# Altium integrated library Atmel Microcontroller 8-Bit megaAVR.IntLib: 324 symbols (part 8 of 10)
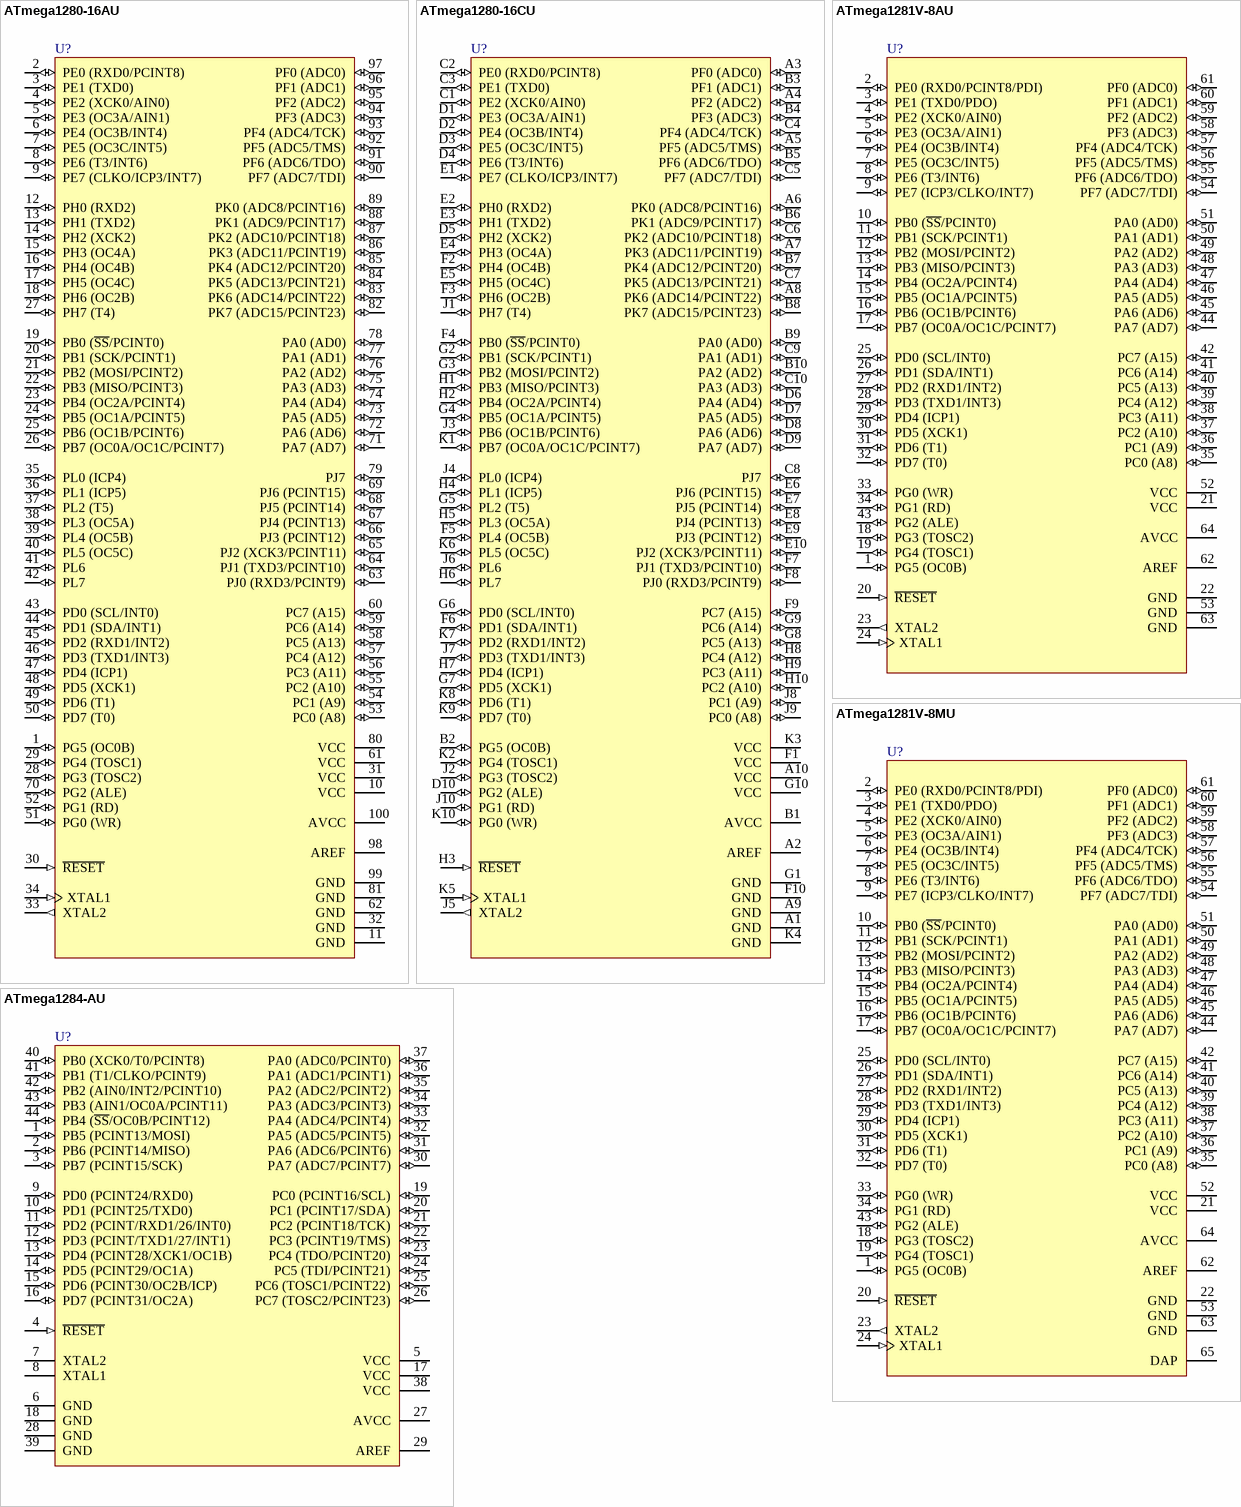
[diagram p49: symbols ATmega1280-16AU to ATmega1284-AU]

## ATmega1281V-8AU
designator U?
8-bit AVR Microcontroller, 1.8-5.5V, 128KB Flash, 4KB EEPROM, 8KB SRAM, 54 GPIO pins, 64-pin TQFP, Industrial Grade (-40°C to 85°C), Pb-Free
footprint 64A_N (Thin QFP, 64-Leads, Body 14x14mm, Pitch 0.8mm, IPC Medium Density)
footprint 64A_L (Thin QFP, 64-Leads, Body 14x14mm, Pitch 0.8mm, IPC High Density)
footprint 64A_M (Thin QFP, 64-Leads, Body 14x14mm, Pitch 0.8mm, IPC Low Density)
pins: 1 PG5 (OC0B) (io), 2 PE0 (RXD0/PCINT8/PDI) (io), 3 PE1 (TXD0/PDO) (io), 4 PE2 (XCK0/AIN0) (io), 5 PE3 (OC3A/AIN1) (io), 6 PE4 (OC3B/INT4) (io), 7 PE5 (OC3C/INT5) (io), 8 PE6 (T3/INT6) (io), 9 PE7 (ICP3/CLKO/INT7) (io), 10 PB0 (~{SS}/PCINT0) (io), 11 PB1 (SCK/PCINT1) (io), 12 PB2 (MOSI/PCINT2) (io), 13 PB3 (MISO/PCINT3) (io), 14 PB4 (OC2A/PCINT4) (io), 15 PB5 (OC1A/PCINT5) (io), 16 PB6 (OC1B/PCINT6) (io), 17 PB7 (OC0A/OC1C/PCINT7) (io), 18 PG3 (TOSC2) (io), 19 PG4 (TOSC1) (io), 20 ~{RESET} (in), 21 VCC (power), 22 GND (power), 23 XTAL2 (out), 24 XTAL1 (in), 25 PD0 (SCL/INT0) (io), 26 PD1 (SDA/INT1) (io), 27 PD2 (RXD1/INT2) (io), 28 PD3 (TXD1/INT3) (io), 29 PD4 (ICP1) (io), 30 PD5 (XCK1) (io), 31 PD6 (T1) (io), 32 PD7 (T0) (io), 33 PG0 (WR) (io), 34 PG1 (RD) (io), 35 PC0 (A8) (io), 36 PC1 (A9) (io), 37 PC2 (A10) (io), 38 PC3 (A11) (io), 39 PC4 (A12) (io), 40 PC5 (A13) (io), 41 PC6 (A14) (io), 42 PC7 (A15) (io), 43 PG2 (ALE) (io), 44 PA7 (AD7) (io), 45 PA6 (AD6) (io), 46 PA5 (AD5) (io), 47 PA4 (AD4) (io), 48 PA3 (AD3) (io), 49 PA2 (AD2) (io), 50 PA1 (AD1) (io), 51 PA0 (AD0) (io), 52 VCC (power), 53 GND (power), 54 PF7 (ADC7/TDI) (io), 55 PF6 (ADC6/TDO) (io), 56 PF5 (ADC5/TMS) (io), 57 PF4 (ADC4/TCK) (io), 58 PF3 (ADC3) (io), 59 PF2 (ADC2) (io), 60 PF1 (ADC1) (io), 61 PF0 (ADC0) (io), 62 AREF (power), 63 GND (power), 64 AVCC (power)

## ATmega1281V-8MU
designator U?
8-bit AVR Microcontroller, 1.8-5.5V, 128KB Flash, 4KB EEPROM, 8KB SRAM, 54 GPIO pins, 64-pin MLF, Industrial Grade (-40°C to 85°C), Pb-Free
footprint 64M2_N (QFN, 64-Leads, Body 9x9mm, Pitch 0.5mm, IPC Medium Density)
footprint 64M2_L (QFN, 64-Leads, Body 9x9mm, Pitch 0.5mm, IPC High Density)
footprint 64M2_M (QFN, 64-Leads, Body 9x9mm, Pitch 0.5mm, IPC Low Density)
pins: 1 PG5 (OC0B) (io), 2 PE0 (RXD0/PCINT8/PDI) (io), 3 PE1 (TXD0/PDO) (io), 4 PE2 (XCK0/AIN0) (io), 5 PE3 (OC3A/AIN1) (io), 6 PE4 (OC3B/INT4) (io), 7 PE5 (OC3C/INT5) (io), 8 PE6 (T3/INT6) (io), 9 PE7 (ICP3/CLKO/INT7) (io), 10 PB0 (~{SS}/PCINT0) (io), 11 PB1 (SCK/PCINT1) (io), 12 PB2 (MOSI/PCINT2) (io), 13 PB3 (MISO/PCINT3) (io), 14 PB4 (OC2A/PCINT4) (io), 15 PB5 (OC1A/PCINT5) (io), 16 PB6 (OC1B/PCINT6) (io), 17 PB7 (OC0A/OC1C/PCINT7) (io), 18 PG3 (TOSC2) (io), 19 PG4 (TOSC1) (io), 20 ~{RESET} (in), 21 VCC (power), 22 GND (power), 23 XTAL2 (out), 24 XTAL1 (in), 25 PD0 (SCL/INT0) (io), 26 PD1 (SDA/INT1) (io), 27 PD2 (RXD1/INT2) (io), 28 PD3 (TXD1/INT3) (io), 29 PD4 (ICP1) (io), 30 PD5 (XCK1) (io), 31 PD6 (T1) (io), 32 PD7 (T0) (io), 33 PG0 (WR) (io), 34 PG1 (RD) (io), 35 PC0 (A8) (io), 36 PC1 (A9) (io), 37 PC2 (A10) (io), 38 PC3 (A11) (io), 39 PC4 (A12) (io), 40 PC5 (A13) (io), 41 PC6 (A14) (io), 42 PC7 (A15) (io), 43 PG2 (ALE) (io), 44 PA7 (AD7) (io), 45 PA6 (AD6) (io), 46 PA5 (AD5) (io), 47 PA4 (AD4) (io), 48 PA3 (AD3) (io), 49 PA2 (AD2) (io), 50 PA1 (AD1) (io), 51 PA0 (AD0) (io), 52 VCC (power), 53 GND (power), 54 PF7 (ADC7/TDI) (io), 55 PF6 (ADC6/TDO) (io), 56 PF5 (ADC5/TMS) (io), 57 PF4 (ADC4/TCK) (io), 58 PF3 (ADC3) (io), 59 PF2 (ADC2) (io), 60 PF1 (ADC1) (io), 61 PF0 (ADC0) (io), 62 AREF (power), 63 GND (power), 64 AVCC (power), 65 DAP (power)

## ATmega1284-AU
designator U?
8-bit AVR Microcontroller, 128KB Flash, 4KB EEPROM, 16KB SRAM, 44-pin TQFP, Industrial Grade (-40°C to 85°C)
footprint 44A_N (Thin QFP, 44-Leads, Body 10x10mm, Pitch 0.8mm, IPC Medium Density)
footprint 44A_L (Thin QFP, 44-Leads, Body 10x10mm, Pitch 0.8mm, IPC High Density)
footprint 44A_M (Thin QFP, 44-Leads, Body 10x10mm, Pitch 0.8mm, IPC Low Density)
pins: 1 PB5 (PCINT13/MOSI) (io), 2 PB6 (PCINT14/MISO) (io), 3 PB7 (PCINT15/SCK) (io), 4 ~{RESET} (in), 5 VCC (power), 6 GND (power), 7 XTAL2, 8 XTAL1, 9 PD0 (PCINT24/RXD0) (io), 10 PD1 (PCINT25/TXD0) (io), 11 PD2 (PCINT/RXD1/26/INT0) (io), 12 PD3 (PCINT/TXD1/27/INT1) (io), 13 PD4 (PCINT28/XCK1/OC1B) (io), 14 PD5 (PCINT29/OC1A) (io), 15 PD6 (PCINT30/OC2B/ICP) (io), 16 PD7 (PCINT31/OC2A) (io), 17 VCC (power), 18 GND (power), 19 PC0 (PCINT16/SCL) (io), 20 PC1 (PCINT17/SDA) (io), 21 PC2 (PCINT18/TCK) (io), 22 PC3 (PCINT19/TMS) (io), 23 PC4 (TDO/PCINT20) (io), 24 PC5 (TDI/PCINT21) (io), 25 PC6 (TOSC1/PCINT22) (io), 26 PC7 (TOSC2/PCINT23) (io), 27 AVCC (power), 28 GND (power), 29 AREF (power), 30 PA7 (ADC7/PCINT7) (io), 31 PA6 (ADC6/PCINT6) (io), 32 PA5 (ADC5/PCINT5) (io), 33 PA4 (ADC4/PCINT4) (io), 34 PA3 (ADC3/PCINT3) (io), 35 PA2 (ADC2/PCINT2) (io), 36 PA1 (ADC1/PCINT1) (io), 37 PA0 (ADC0/PCINT0) (io), 38 VCC (power), 39 GND (power), 40 PB0 (XCK0/T0/PCINT8) (io), 41 PB1 (T1/CLKO/PCINT9) (io), 42 PB2 (AIN0/INT2/PCINT10) (io), 43 PB3 (AIN1/OC0A/PCINT11) (io), 44 PB4 (~{SS}/OC0B/PCINT12) (io)

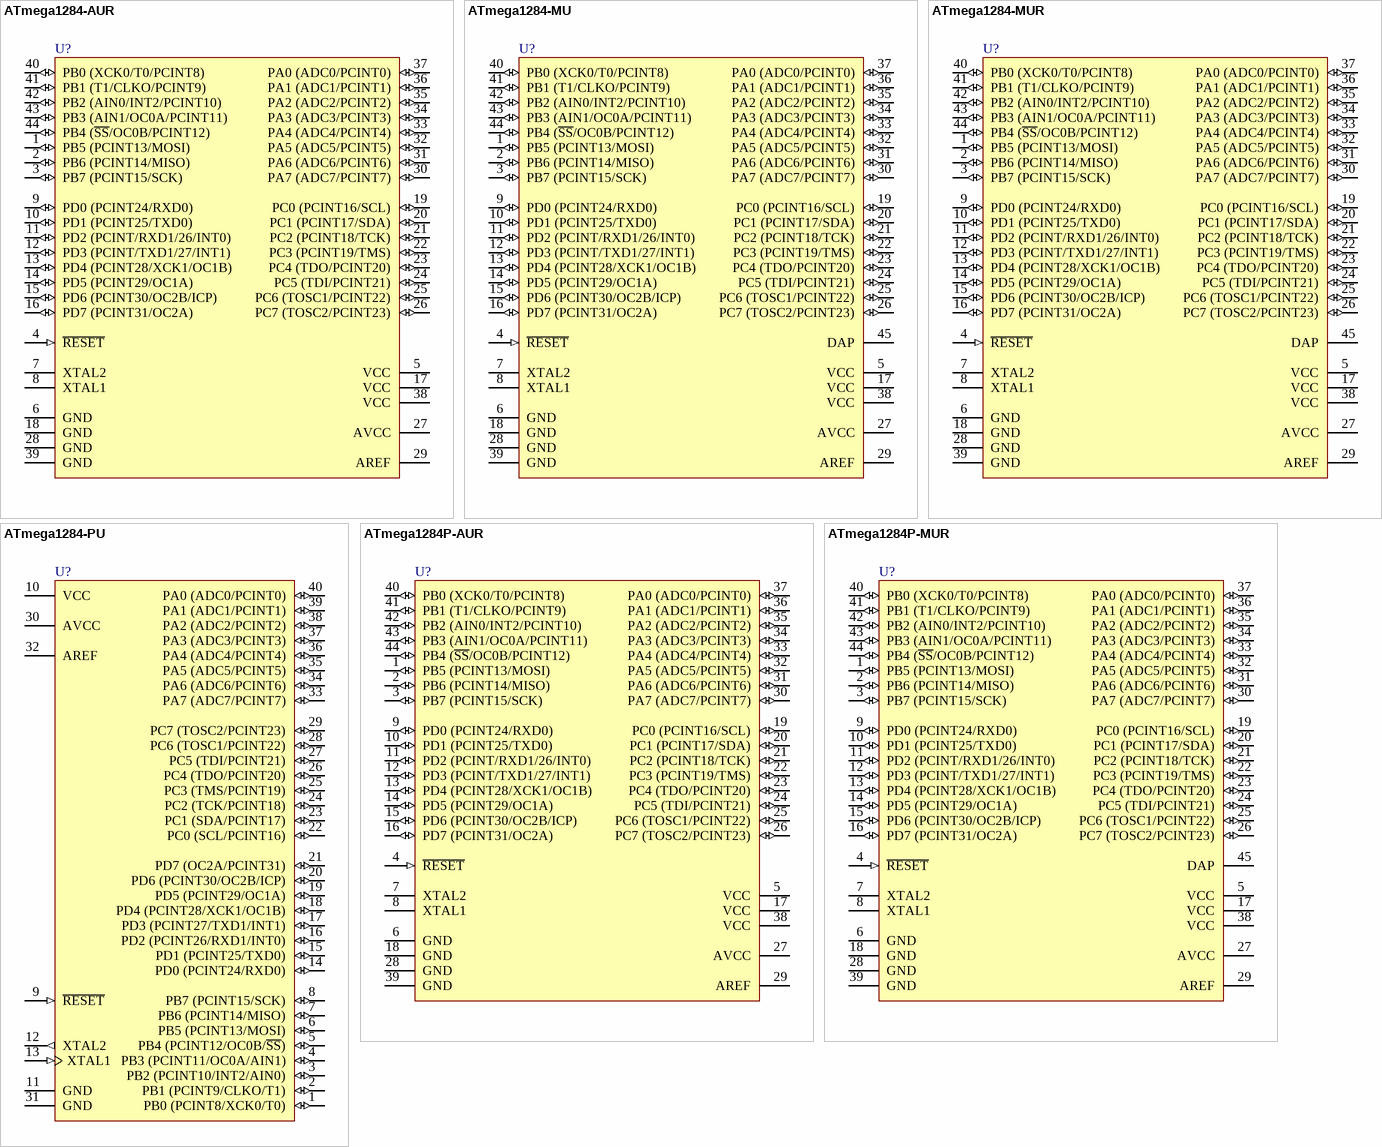
[diagram p30: symbols ATmega1284-AUR to ATmega1284P-MUR]

## ATmega1284-AUR
designator U?
8-bit AVR Microcontroller, 128KB Flash, 4KB EEPROM, 16KB SRAM, 44-pin TQFP, Industrial Grade (-40°C to 85°C), Reel
footprint 44A_N (Thin QFP, 44-Leads, Body 10x10mm, Pitch 0.8mm, IPC Medium Density)
footprint 44A_L (Thin QFP, 44-Leads, Body 10x10mm, Pitch 0.8mm, IPC High Density)
footprint 44A_M (Thin QFP, 44-Leads, Body 10x10mm, Pitch 0.8mm, IPC Low Density)
pins: 1 PB5 (PCINT13/MOSI) (io), 2 PB6 (PCINT14/MISO) (io), 3 PB7 (PCINT15/SCK) (io), 4 ~{RESET} (in), 5 VCC (power), 6 GND (power), 7 XTAL2, 8 XTAL1, 9 PD0 (PCINT24/RXD0) (io), 10 PD1 (PCINT25/TXD0) (io), 11 PD2 (PCINT/RXD1/26/INT0) (io), 12 PD3 (PCINT/TXD1/27/INT1) (io), 13 PD4 (PCINT28/XCK1/OC1B) (io), 14 PD5 (PCINT29/OC1A) (io), 15 PD6 (PCINT30/OC2B/ICP) (io), 16 PD7 (PCINT31/OC2A) (io), 17 VCC (power), 18 GND (power), 19 PC0 (PCINT16/SCL) (io), 20 PC1 (PCINT17/SDA) (io), 21 PC2 (PCINT18/TCK) (io), 22 PC3 (PCINT19/TMS) (io), 23 PC4 (TDO/PCINT20) (io), 24 PC5 (TDI/PCINT21) (io), 25 PC6 (TOSC1/PCINT22) (io), 26 PC7 (TOSC2/PCINT23) (io), 27 AVCC (power), 28 GND (power), 29 AREF (power), 30 PA7 (ADC7/PCINT7) (io), 31 PA6 (ADC6/PCINT6) (io), 32 PA5 (ADC5/PCINT5) (io), 33 PA4 (ADC4/PCINT4) (io), 34 PA3 (ADC3/PCINT3) (io), 35 PA2 (ADC2/PCINT2) (io), 36 PA1 (ADC1/PCINT1) (io), 37 PA0 (ADC0/PCINT0) (io), 38 VCC (power), 39 GND (power), 40 PB0 (XCK0/T0/PCINT8) (io), 41 PB1 (T1/CLKO/PCINT9) (io), 42 PB2 (AIN0/INT2/PCINT10) (io), 43 PB3 (AIN1/OC0A/PCINT11) (io), 44 PB4 (~{SS}/OC0B/PCINT12) (io)

## ATmega1284-MU
designator U?
8-bit AVR Microcontroller, 128KB Flash, 4KB EEPROM, 16KB SRAM, 44-pin VQFN, Industrial Grade (-40°C to 85°C)
footprint 44M1_N (QFN, 44-Leads, Body 7x7mm, Pitch 0.5mm, IPC Medium Density)
footprint 44M1_L (QFN, 44-Leads, Body 7x7mm, Pitch 0.5mm, IPC High Density)
footprint 44M1_M (QFN, 44-Leads, Body 7x7mm, Pitch 0.5mm, IPC Low Density)
pins: 1 PB5 (PCINT13/MOSI) (io), 2 PB6 (PCINT14/MISO) (io), 3 PB7 (PCINT15/SCK) (io), 4 ~{RESET} (in), 5 VCC (power), 6 GND (power), 7 XTAL2, 8 XTAL1, 9 PD0 (PCINT24/RXD0) (io), 10 PD1 (PCINT25/TXD0) (io), 11 PD2 (PCINT/RXD1/26/INT0) (io), 12 PD3 (PCINT/TXD1/27/INT1) (io), 13 PD4 (PCINT28/XCK1/OC1B) (io), 14 PD5 (PCINT29/OC1A) (io), 15 PD6 (PCINT30/OC2B/ICP) (io), 16 PD7 (PCINT31/OC2A) (io), 17 VCC (power), 18 GND (power), 19 PC0 (PCINT16/SCL) (io), 20 PC1 (PCINT17/SDA) (io), 21 PC2 (PCINT18/TCK) (io), 22 PC3 (PCINT19/TMS) (io), 23 PC4 (TDO/PCINT20) (io), 24 PC5 (TDI/PCINT21) (io), 25 PC6 (TOSC1/PCINT22) (io), 26 PC7 (TOSC2/PCINT23) (io), 27 AVCC (power), 28 GND (power), 29 AREF, 30 PA7 (ADC7/PCINT7) (io), 31 PA6 (ADC6/PCINT6) (io), 32 PA5 (ADC5/PCINT5) (io), 33 PA4 (ADC4/PCINT4) (io), 34 PA3 (ADC3/PCINT3) (io), 35 PA2 (ADC2/PCINT2) (io), 36 PA1 (ADC1/PCINT1) (io), 37 PA0 (ADC0/PCINT0) (io), 38 VCC (power), 39 GND (power), 40 PB0 (XCK0/T0/PCINT8) (io), 41 PB1 (T1/CLKO/PCINT9) (io), 42 PB2 (AIN0/INT2/PCINT10) (io), 43 PB3 (AIN1/OC0A/PCINT11) (io), 44 PB4 (~{SS}/OC0B/PCINT12) (io), 45 DAP (power)

## ATmega1284-MUR
designator U?
8-bit AVR Microcontroller, 128KB Flash, 4KB EEPROM, 16KB SRAM, 44-pin VQFN, Industrial Grade (-40°C to 85°C), Reel
footprint 44M1_N (QFN, 44-Leads, Body 7x7mm, Pitch 0.5mm, IPC Medium Density)
footprint 44M1_L (QFN, 44-Leads, Body 7x7mm, Pitch 0.5mm, IPC High Density)
footprint 44M1_M (QFN, 44-Leads, Body 7x7mm, Pitch 0.5mm, IPC Low Density)
pins: 1 PB5 (PCINT13/MOSI) (io), 2 PB6 (PCINT14/MISO) (io), 3 PB7 (PCINT15/SCK) (io), 4 ~{RESET} (in), 5 VCC (power), 6 GND (power), 7 XTAL2, 8 XTAL1, 9 PD0 (PCINT24/RXD0) (io), 10 PD1 (PCINT25/TXD0) (io), 11 PD2 (PCINT/RXD1/26/INT0) (io), 12 PD3 (PCINT/TXD1/27/INT1) (io), 13 PD4 (PCINT28/XCK1/OC1B) (io), 14 PD5 (PCINT29/OC1A) (io), 15 PD6 (PCINT30/OC2B/ICP) (io), 16 PD7 (PCINT31/OC2A) (io), 17 VCC (power), 18 GND (power), 19 PC0 (PCINT16/SCL) (io), 20 PC1 (PCINT17/SDA) (io), 21 PC2 (PCINT18/TCK) (io), 22 PC3 (PCINT19/TMS) (io), 23 PC4 (TDO/PCINT20) (io), 24 PC5 (TDI/PCINT21) (io), 25 PC6 (TOSC1/PCINT22) (io), 26 PC7 (TOSC2/PCINT23) (io), 27 AVCC (power), 28 GND (power), 29 AREF, 30 PA7 (ADC7/PCINT7) (io), 31 PA6 (ADC6/PCINT6) (io), 32 PA5 (ADC5/PCINT5) (io), 33 PA4 (ADC4/PCINT4) (io), 34 PA3 (ADC3/PCINT3) (io), 35 PA2 (ADC2/PCINT2) (io), 36 PA1 (ADC1/PCINT1) (io), 37 PA0 (ADC0/PCINT0) (io), 38 VCC (power), 39 GND (power), 40 PB0 (XCK0/T0/PCINT8) (io), 41 PB1 (T1/CLKO/PCINT9) (io), 42 PB2 (AIN0/INT2/PCINT10) (io), 43 PB3 (AIN1/OC0A/PCINT11) (io), 44 PB4 (~{SS}/OC0B/PCINT12) (io), 45 DAP (power)

## ATmega1284-PU
designator U?
8-bit AVR Microcontroller, 128KB Flash, 4KB EEPROM, 16KB SRAM, 40-pin PDIP, Industrial Grade (-40°C to 85°C)
footprint 40P6 (DIP, 40-Leads, Row Spacing 15.24mm, Pitch 2.54mm, Body 52.2x13.95mm)
pins: 1 PB0 (PCINT8/XCK0/T0) (io), 2 PB1 (PCINT9/CLKO/T1) (io), 3 PB2 (PCINT10/INT2/AIN0) (io), 4 PB3 (PCINT11/OC0A/AIN1) (io), 5 PB4 (PCINT12/OC0B/~{SS}) (io), 6 PB5 (PCINT13/MOSI) (io), 7 PB6 (PCINT14/MISO) (io), 8 PB7 (PCINT15/SCK) (io), 9 ~{RESET} (in), 10 VCC (power), 11 GND (power), 12 XTAL2 (out), 13 XTAL1 (in), 14 PD0 (PCINT24/RXD0) (io), 15 PD1 (PCINT25/TXD0) (io), 16 PD2 (PCINT26/RXD1/INT0) (io), 17 PD3 (PCINT27/TXD1/INT1) (io), 18 PD4 (PCINT28/XCK1/OC1B) (io), 19 PD5 (PCINT29/OC1A) (io), 20 PD6 (PCINT30/OC2B/ICP) (io), 21 PD7 (OC2A/PCINT31) (io), 22 PC0 (SCL/PCINT16) (io), 23 PC1 (SDA/PCINT17) (io), 24 PC2 (TCK/PCINT18) (io), 25 PC3 (TMS/PCINT19) (io), 26 PC4 (TDO/PCINT20) (io), 27 PC5 (TDI/PCINT21) (io), 28 PC6 (TOSC1/PCINT22) (io), 29 PC7 (TOSC2/PCINT23) (io), 30 AVCC (power), 31 GND (power), 32 AREF (power), 33 PA7 (ADC7/PCINT7) (io), 34 PA6 (ADC6/PCINT6) (io), 35 PA5 (ADC5/PCINT5) (io), 36 PA4 (ADC4/PCINT4) (io), 37 PA3 (ADC3/PCINT3) (io), 38 PA2 (ADC2/PCINT2) (io), 39 PA1 (ADC1/PCINT1) (io), 40 PA0 (ADC0/PCINT0) (io)

## ATmega1284P-AUR
designator U?
8-bit AVR Microcontroller, 128KB Flash, 4KB EEPROM, 16KB SRAM, 44-pin TQFP, Industrial Grade (-40°C to 85°C), Reel
footprint 44A_N (Thin QFP, 44-Leads, Body 10x10mm, Pitch 0.8mm, IPC Medium Density)
footprint 44A_L (Thin QFP, 44-Leads, Body 10x10mm, Pitch 0.8mm, IPC High Density)
footprint 44A_M (Thin QFP, 44-Leads, Body 10x10mm, Pitch 0.8mm, IPC Low Density)
pins: 1 PB5 (PCINT13/MOSI) (io), 2 PB6 (PCINT14/MISO) (io), 3 PB7 (PCINT15/SCK) (io), 4 ~{RESET} (in), 5 VCC (power), 6 GND (power), 7 XTAL2, 8 XTAL1, 9 PD0 (PCINT24/RXD0) (io), 10 PD1 (PCINT25/TXD0) (io), 11 PD2 (PCINT/RXD1/26/INT0) (io), 12 PD3 (PCINT/TXD1/27/INT1) (io), 13 PD4 (PCINT28/XCK1/OC1B) (io), 14 PD5 (PCINT29/OC1A) (io), 15 PD6 (PCINT30/OC2B/ICP) (io), 16 PD7 (PCINT31/OC2A) (io), 17 VCC (power), 18 GND (power), 19 PC0 (PCINT16/SCL) (io), 20 PC1 (PCINT17/SDA) (io), 21 PC2 (PCINT18/TCK) (io), 22 PC3 (PCINT19/TMS) (io), 23 PC4 (TDO/PCINT20) (io), 24 PC5 (TDI/PCINT21) (io), 25 PC6 (TOSC1/PCINT22) (io), 26 PC7 (TOSC2/PCINT23) (io), 27 AVCC (power), 28 GND (power), 29 AREF (power), 30 PA7 (ADC7/PCINT7) (io), 31 PA6 (ADC6/PCINT6) (io), 32 PA5 (ADC5/PCINT5) (io), 33 PA4 (ADC4/PCINT4) (io), 34 PA3 (ADC3/PCINT3) (io), 35 PA2 (ADC2/PCINT2) (io), 36 PA1 (ADC1/PCINT1) (io), 37 PA0 (ADC0/PCINT0) (io), 38 VCC (power), 39 GND (power), 40 PB0 (XCK0/T0/PCINT8) (io), 41 PB1 (T1/CLKO/PCINT9) (io), 42 PB2 (AIN0/INT2/PCINT10) (io), 43 PB3 (AIN1/OC0A/PCINT11) (io), 44 PB4 (~{SS}/OC0B/PCINT12) (io)

## ATmega1284P-MUR
designator U?
8-bit AVR Microcontroller, 128KB Flash, 4KB EEPROM, 16KB SRAM, 44-pin VQFN, Industrial Grade (-40°C to 85°C), Reel
footprint 44M1_N (QFN, 44-Leads, Body 7x7mm, Pitch 0.5mm, IPC Medium Density)
footprint 44M1_L (QFN, 44-Leads, Body 7x7mm, Pitch 0.5mm, IPC High Density)
footprint 44M1_M (QFN, 44-Leads, Body 7x7mm, Pitch 0.5mm, IPC Low Density)
pins: 1 PB5 (PCINT13/MOSI) (io), 2 PB6 (PCINT14/MISO) (io), 3 PB7 (PCINT15/SCK) (io), 4 ~{RESET} (in), 5 VCC (power), 6 GND (power), 7 XTAL2, 8 XTAL1, 9 PD0 (PCINT24/RXD0) (io), 10 PD1 (PCINT25/TXD0) (io), 11 PD2 (PCINT/RXD1/26/INT0) (io), 12 PD3 (PCINT/TXD1/27/INT1) (io), 13 PD4 (PCINT28/XCK1/OC1B) (io), 14 PD5 (PCINT29/OC1A) (io), 15 PD6 (PCINT30/OC2B/ICP) (io), 16 PD7 (PCINT31/OC2A) (io), 17 VCC (power), 18 GND (power), 19 PC0 (PCINT16/SCL) (io), 20 PC1 (PCINT17/SDA) (io), 21 PC2 (PCINT18/TCK) (io), 22 PC3 (PCINT19/TMS) (io), 23 PC4 (TDO/PCINT20) (io), 24 PC5 (TDI/PCINT21) (io), 25 PC6 (TOSC1/PCINT22) (io), 26 PC7 (TOSC2/PCINT23) (io), 27 AVCC (power), 28 GND (power), 29 AREF, 30 PA7 (ADC7/PCINT7) (io), 31 PA6 (ADC6/PCINT6) (io), 32 PA5 (ADC5/PCINT5) (io), 33 PA4 (ADC4/PCINT4) (io), 34 PA3 (ADC3/PCINT3) (io), 35 PA2 (ADC2/PCINT2) (io), 36 PA1 (ADC1/PCINT1) (io), 37 PA0 (ADC0/PCINT0) (io), 38 VCC (power), 39 GND (power), 40 PB0 (XCK0/T0/PCINT8) (io), 41 PB1 (T1/CLKO/PCINT9) (io), 42 PB2 (AIN0/INT2/PCINT10) (io), 43 PB3 (AIN1/OC0A/PCINT11) (io), 44 PB4 (~{SS}/OC0B/PCINT12) (io), 45 DAP (power)

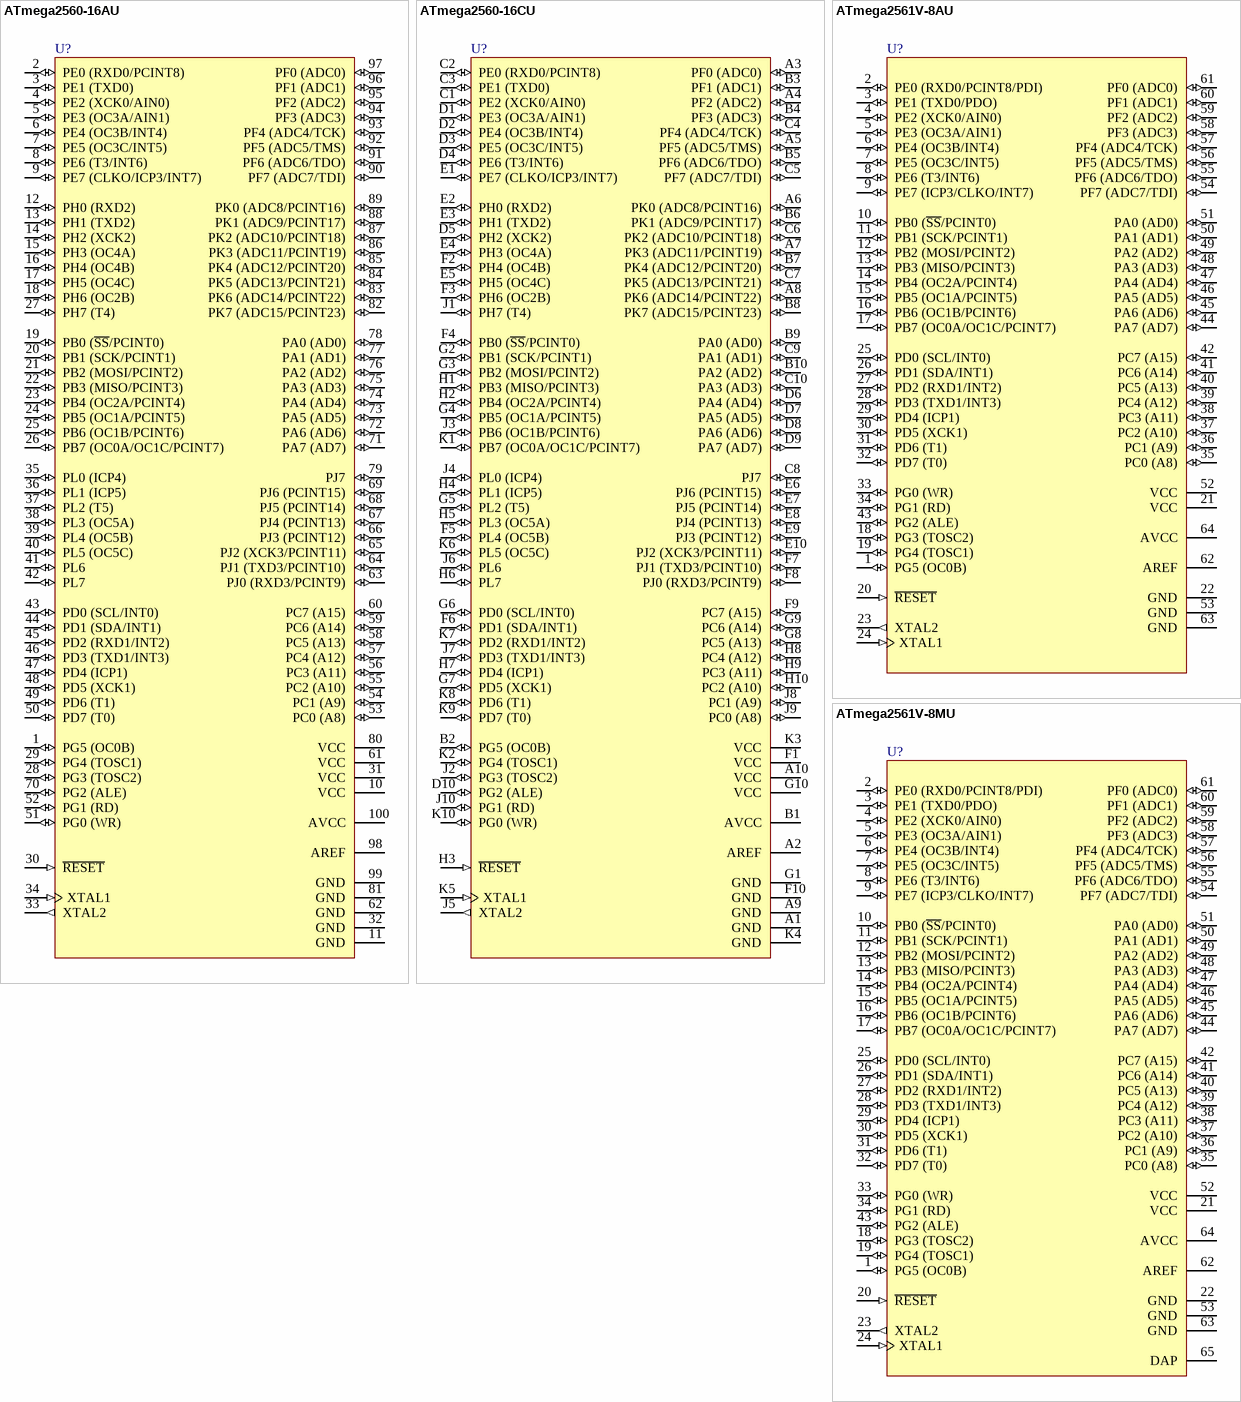
[diagram p31: symbols ATmega2560-16AU to ATmega2561V-8MU]

## ATmega2560-16AU
designator U?
8-bit AVR Microcontroller, 4.5-5.5V, 256KB Flash, 4KB EEPROM, 8KB SRAM, 86 GPIO pins, 100-pin TQFP, Industrial Grade (-40°C to 85°C), Pb-Free
footprint 100A_N (Thin QFP, 100-Leads, Body 14x14mm, Pitch 0.5mm, IPC Medium Density)
footprint 100A_L (Thin QFP, 100-Leads, Body 14x14mm, Pitch 0.5mm, IPC High Density)
footprint 100A_M (Thin QFP, 100-Leads, Body 14x14mm, Pitch 0.5mm, IPC Low Density)
pins: 1 PG5 (OC0B) (io), 2 PE0 (RXD0/PCINT8) (io), 3 PE1 (TXD0) (io), 4 PE2 (XCK0/AIN0) (io), 5 PE3 (OC3A/AIN1) (io), 6 PE4 (OC3B/INT4) (io), 7 PE5 (OC3C/INT5) (io), 8 PE6 (T3/INT6) (io), 9 PE7 (CLKO/ICP3/INT7) (io), 10 VCC (power), 11 GND (power), 12 PH0 (RXD2) (io), 13 PH1 (TXD2) (io), 14 PH2 (XCK2) (io), 15 PH3 (OC4A) (io), 16 PH4 (OC4B) (io), 17 PH5 (OC4C) (io), 18 PH6 (OC2B) (io), 19 PB0 (~{SS}/PCINT0) (io), 20 PB1 (SCK/PCINT1) (io), 21 PB2 (MOSI/PCINT2) (io), 22 PB3 (MISO/PCINT3) (io), 23 PB4 (OC2A/PCINT4) (io), 24 PB5 (OC1A/PCINT5) (io), 25 PB6 (OC1B/PCINT6) (io), 26 PB7 (OC0A/OC1C/PCINT7) (io), 27 PH7 (T4) (io), 28 PG3 (TOSC2) (io), 29 PG4 (TOSC1) (io), 30 ~{RESET} (in), 31 VCC (power), 32 GND (power), 33 XTAL2 (out), 34 XTAL1 (in), 35 PL0 (ICP4) (io), 36 PL1 (ICP5) (io), 37 PL2 (T5) (io), 38 PL3 (OC5A) (io), 39 PL4 (OC5B) (io), 40 PL5 (OC5C) (io), 41 PL6 (io), 42 PL7 (io), 43 PD0 (SCL/INT0) (io), 44 PD1 (SDA/INT1) (io), 45 PD2 (RXD1/INT2) (io), 46 PD3 (TXD1/INT3) (io), 47 PD4 (ICP1) (io), 48 PD5 (XCK1) (io), 49 PD6 (T1) (io), 50 PD7 (T0) (io), 51 PG0 (WR) (io), 52 PG1 (RD) (io), 53 PC0 (A8) (io), 54 PC1 (A9) (io), 55 PC2 (A10) (io), 56 PC3 (A11) (io), 57 PC4 (A12) (io), 58 PC5 (A13) (io), 59 PC6 (A14) (io), 60 PC7 (A15) (io), 61 VCC (power), 62 GND (power), 63 PJ0 (RXD3/PCINT9) (io), 64 PJ1 (TXD3/PCINT10) (io), 65 PJ2 (XCK3/PCINT11) (io), 66 PJ3 (PCINT12) (io), 67 PJ4 (PCINT13) (io), 68 PJ5 (PCINT14) (io), 69 PJ6 (PCINT15) (io), 70 PG2 (ALE) (io), 71 PA7 (AD7) (io), 72 PA6 (AD6) (io), 73 PA5 (AD5) (io), 74 PA4 (AD4) (io), 75 PA3 (AD3) (io), 76 PA2 (AD2) (io), 77 PA1 (AD1) (io), 78 PA0 (AD0) (io), 79 PJ7 (io), 80 VCC (power), 81 GND (power), 82 PK7 (ADC15/PCINT23) (io), 83 PK6 (ADC14/PCINT22) (io), 84 PK5 (ADC13/PCINT21) (io), 85 PK4 (ADC12/PCINT20) (io), 86 PK3 (ADC11/PCINT19) (io), 87 PK2 (ADC10/PCINT18) (io), 88 PK1 (ADC9/PCINT17) (io), 89 PK0 (ADC8/PCINT16) (io), 90 PF7 (ADC7/TDI) (io), 91 PF6 (ADC6/TDO) (io), 92 PF5 (ADC5/TMS) (io), 93 PF4 (ADC4/TCK) (io), 94 PF3 (ADC3) (io), 95 PF2 (ADC2) (io), 96 PF1 (ADC1) (io), 97 PF0 (ADC0) (io), 98 AREF (power), 99 GND (power), 100 AVCC (power)

## ATmega2560-16CU
designator U?
8-bit AVR Microcontroller, 4.5-5.5V, 256KB Flash, 4KB EEPROM, 8KB SRAM, 86 GPIO pins, 100-pin CBGA, Industrial Grade (-40°C to 85°C), Pb-Free
footprint 100C1 (BGA, 100-Leads, Body 9x9mm, Pitch 0.8mm)
pins: A1 GND (power), A2 AREF (power), A3 PF0 (ADC0) (io), A4 PF2 (ADC2) (io), A5 PF5 (ADC5/TMS) (io), A6 PK0 (ADC8/PCINT16) (io), A7 PK3 (ADC11/PCINT19) (io), A8 PK6 (ADC14/PCINT22) (io), A9 GND (power), A10 VCC (power), B1 AVCC (power), B2 PG5 (OC0B) (io), B3 PF1 (ADC1) (io), B4 PF3 (ADC3) (io), B5 PF6 (ADC6/TDO) (io), B6 PK1 (ADC9/PCINT17) (io), B7 PK4 (ADC12/PCINT20) (io), B8 PK7 (ADC15/PCINT23) (io), B9 PA0 (AD0) (io), B10 PA2 (AD2) (io), C1 PE2 (XCK0/AIN0) (io), C2 PE0 (RXD0/PCINT8) (io), C3 PE1 (TXD0) (io), C4 PF4 (ADC4/TCK) (io), C5 PF7 (ADC7/TDI) (io), C6 PK2 (ADC10/PCINT18) (io), C7 PK5 (ADC13/PCINT21) (io), C8 PJ7 (io), C9 PA1 (AD1) (io), C10 PA3 (AD3) (io), D1 PE3 (OC3A/AIN1) (io), D2 PE4 (OC3B/INT4) (io), D3 PE5 (OC3C/INT5) (io), D4 PE6 (T3/INT6) (io), D5 PH2 (XCK2) (io), D6 PA4 (AD4) (io), D7 PA5 (AD5) (io), D8 PA6 (AD6) (io), D9 PA7 (AD7) (io), D10 PG2 (ALE) (io), E1 PE7 (CLKO/ICP3/INT7) (io), E2 PH0 (RXD2) (io), E3 PH1 (TXD2) (io), E4 PH3 (OC4A) (io), E5 PH5 (OC4C) (io), E6 PJ6 (PCINT15) (io), E7 PJ5 (PCINT14) (io), E8 PJ4 (PCINT13) (io), E9 PJ3 (PCINT12) (io), E10 PJ2 (XCK3/PCINT11) (io), F1 VCC (power), F2 PH4 (OC4B) (io), F3 PH6 (OC2B) (io), F4 PB0 (~{SS}/PCINT0) (io), F5 PL4 (OC5B) (io), F6 PD1 (SDA/INT1) (io), F7 PJ1 (TXD3/PCINT10) (io), F8 PJ0 (RXD3/PCINT9) (io), F9 PC7 (A15) (io), F10 GND (power), G1 GND (power), G2 PB1 (SCK/PCINT1) (io), G3 PB2 (MOSI/PCINT2) (io), G4 PB5 (OC1A/PCINT5) (io), G5 PL2 (T5) (io), G6 PD0 (SCL/INT0) (io), G7 PD5 (XCK1) (io), G8 PC5 (A13) (io), G9 PC6 (A14) (io), G10 VCC (power), H1 PB3 (MISO/PCINT3) (io), H2 PB4 (OC2A/PCINT4) (io), H3 ~{RESET} (in), H4 PL1 (ICP5) (io), H5 PL3 (OC5A) (io), H6 PL7 (io), H7 PD4 (ICP1) (io), H8 PC4 (A12) (io), H9 PC3 (A11) (io), H10 PC2 (A10) (io), J1 PH7 (T4) (io), J2 PG3 (TOSC2) (io), J3 PB6 (OC1B/PCINT6) (io), J4 PL0 (ICP4) (io), J5 XTAL2 (out), J6 PL6 (io), J7 PD3 (TXD1/INT3) (io), J8 PC1 (A9) (io), J9 PC0 (A8) (io), J10 PG1 (RD) (io), K1 PB7 (OC0A/OC1C/PCINT7) (io), K2 PG4 (TOSC1) (io), K3 VCC (power), K4 GND (power), K5 XTAL1 (in), K6 PL5 (OC5C) (io), K7 PD2 (RXD1/INT2) (io), K8 PD6 (T1) (io), K9 PD7 (T0) (io), K10 PG0 (WR) (io)

## ATmega2561V-8AU
designator U?
8-bit AVR Microcontroller, 1.8-5.5V, 256KB Flash, 4KB EEPROM, 8KB SRAM, 54 GPIO pins, 64-pin TQFP, Industrial Grade (-40°C to 85°C), Pb-Free
footprint 64A_N (Thin QFP, 64-Leads, Body 14x14mm, Pitch 0.8mm, IPC Medium Density)
footprint 64A_L (Thin QFP, 64-Leads, Body 14x14mm, Pitch 0.8mm, IPC High Density)
footprint 64A_M (Thin QFP, 64-Leads, Body 14x14mm, Pitch 0.8mm, IPC Low Density)
pins: 1 PG5 (OC0B) (io), 2 PE0 (RXD0/PCINT8/PDI) (io), 3 PE1 (TXD0/PDO) (io), 4 PE2 (XCK0/AIN0) (io), 5 PE3 (OC3A/AIN1) (io), 6 PE4 (OC3B/INT4) (io), 7 PE5 (OC3C/INT5) (io), 8 PE6 (T3/INT6) (io), 9 PE7 (ICP3/CLKO/INT7) (io), 10 PB0 (~{SS}/PCINT0) (io), 11 PB1 (SCK/PCINT1) (io), 12 PB2 (MOSI/PCINT2) (io), 13 PB3 (MISO/PCINT3) (io), 14 PB4 (OC2A/PCINT4) (io), 15 PB5 (OC1A/PCINT5) (io), 16 PB6 (OC1B/PCINT6) (io), 17 PB7 (OC0A/OC1C/PCINT7) (io), 18 PG3 (TOSC2) (io), 19 PG4 (TOSC1) (io), 20 ~{RESET} (in), 21 VCC (power), 22 GND (power), 23 XTAL2 (out), 24 XTAL1 (in), 25 PD0 (SCL/INT0) (io), 26 PD1 (SDA/INT1) (io), 27 PD2 (RXD1/INT2) (io), 28 PD3 (TXD1/INT3) (io), 29 PD4 (ICP1) (io), 30 PD5 (XCK1) (io), 31 PD6 (T1) (io), 32 PD7 (T0) (io), 33 PG0 (WR) (io), 34 PG1 (RD) (io), 35 PC0 (A8) (io), 36 PC1 (A9) (io), 37 PC2 (A10) (io), 38 PC3 (A11) (io), 39 PC4 (A12) (io), 40 PC5 (A13) (io), 41 PC6 (A14) (io), 42 PC7 (A15) (io), 43 PG2 (ALE) (io), 44 PA7 (AD7) (io), 45 PA6 (AD6) (io), 46 PA5 (AD5) (io), 47 PA4 (AD4) (io), 48 PA3 (AD3) (io), 49 PA2 (AD2) (io), 50 PA1 (AD1) (io), 51 PA0 (AD0) (io), 52 VCC (power), 53 GND (power), 54 PF7 (ADC7/TDI) (io), 55 PF6 (ADC6/TDO) (io), 56 PF5 (ADC5/TMS) (io), 57 PF4 (ADC4/TCK) (io), 58 PF3 (ADC3) (io), 59 PF2 (ADC2) (io), 60 PF1 (ADC1) (io), 61 PF0 (ADC0) (io), 62 AREF (power), 63 GND (power), 64 AVCC (power)

## ATmega2561V-8MU
designator U?
8-bit AVR Microcontroller, 1.8-5.5V, 256KB Flash, 4KB EEPROM, 8KB SRAM, 54 GPIO pins, 64-pin MLF, Industrial Grade (-40°C to 85°C), Pb-Free
footprint 64M2_N (QFN, 64-Leads, Body 9x9mm, Pitch 0.5mm, IPC Medium Density)
footprint 64M2_L (QFN, 64-Leads, Body 9x9mm, Pitch 0.5mm, IPC High Density)
footprint 64M2_M (QFN, 64-Leads, Body 9x9mm, Pitch 0.5mm, IPC Low Density)
pins: 1 PG5 (OC0B) (io), 2 PE0 (RXD0/PCINT8/PDI) (io), 3 PE1 (TXD0/PDO) (io), 4 PE2 (XCK0/AIN0) (io), 5 PE3 (OC3A/AIN1) (io), 6 PE4 (OC3B/INT4) (io), 7 PE5 (OC3C/INT5) (io), 8 PE6 (T3/INT6) (io), 9 PE7 (ICP3/CLKO/INT7) (io), 10 PB0 (~{SS}/PCINT0) (io), 11 PB1 (SCK/PCINT1) (io), 12 PB2 (MOSI/PCINT2) (io), 13 PB3 (MISO/PCINT3) (io), 14 PB4 (OC2A/PCINT4) (io), 15 PB5 (OC1A/PCINT5) (io), 16 PB6 (OC1B/PCINT6) (io), 17 PB7 (OC0A/OC1C/PCINT7) (io), 18 PG3 (TOSC2) (io), 19 PG4 (TOSC1) (io), 20 ~{RESET} (in), 21 VCC (power), 22 GND (power), 23 XTAL2 (out), 24 XTAL1 (in), 25 PD0 (SCL/INT0) (io), 26 PD1 (SDA/INT1) (io), 27 PD2 (RXD1/INT2) (io), 28 PD3 (TXD1/INT3) (io), 29 PD4 (ICP1) (io), 30 PD5 (XCK1) (io), 31 PD6 (T1) (io), 32 PD7 (T0) (io), 33 PG0 (WR) (io), 34 PG1 (RD) (io), 35 PC0 (A8) (io), 36 PC1 (A9) (io), 37 PC2 (A10) (io), 38 PC3 (A11) (io), 39 PC4 (A12) (io), 40 PC5 (A13) (io), 41 PC6 (A14) (io), 42 PC7 (A15) (io), 43 PG2 (ALE) (io), 44 PA7 (AD7) (io), 45 PA6 (AD6) (io), 46 PA5 (AD5) (io), 47 PA4 (AD4) (io), 48 PA3 (AD3) (io), 49 PA2 (AD2) (io), 50 PA1 (AD1) (io), 51 PA0 (AD0) (io), 52 VCC (power), 53 GND (power), 54 PF7 (ADC7/TDI) (io), 55 PF6 (ADC6/TDO) (io), 56 PF5 (ADC5/TMS) (io), 57 PF4 (ADC4/TCK) (io), 58 PF3 (ADC3) (io), 59 PF2 (ADC2) (io), 60 PF1 (ADC1) (io), 61 PF0 (ADC0) (io), 62 AREF (power), 63 GND (power), 64 AVCC (power), 65 DAP (power)

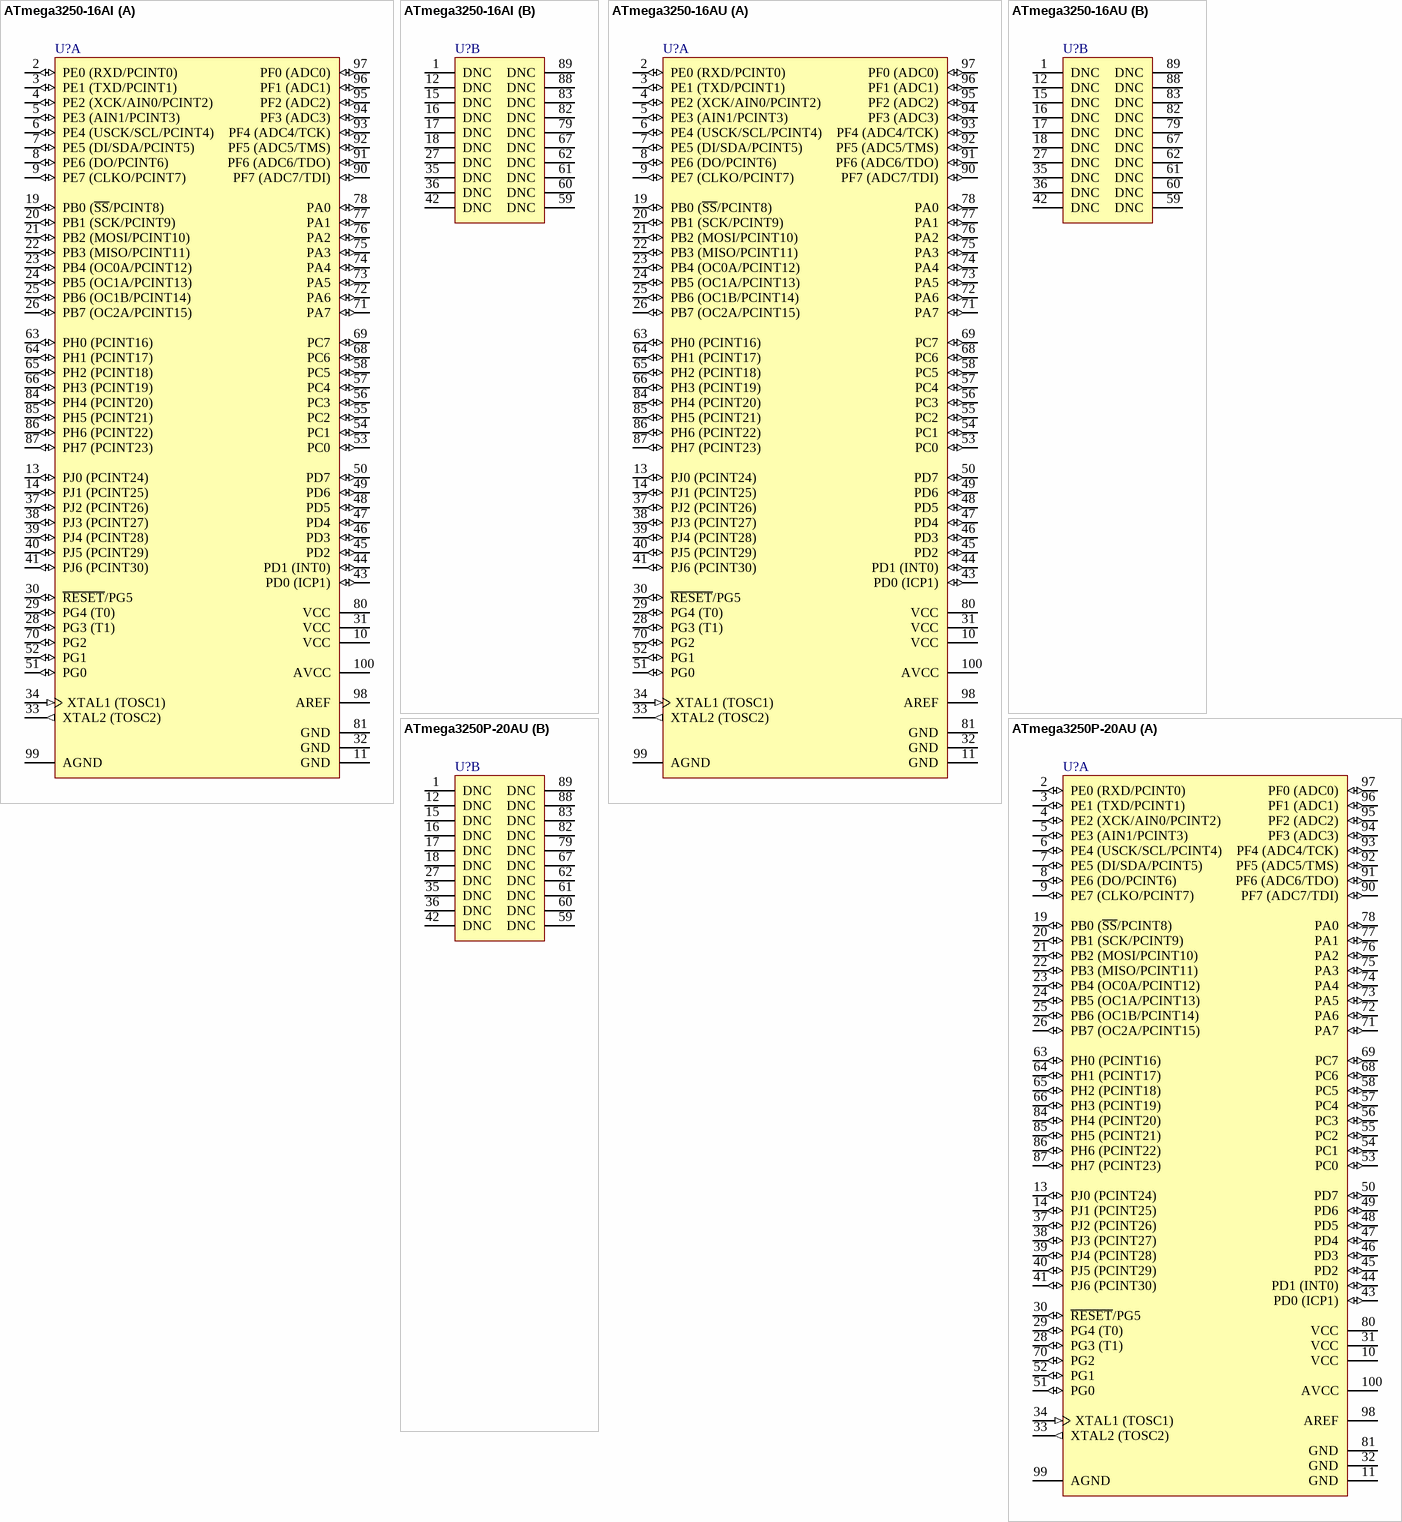
[diagram p32: symbols ATmega3250-16AI to ATmega3250P-20AU]

## ATmega3250-16AI
designator U?
8-bit AVR Microcontroller, 2.7-5.5V, 32KB Flash, 1KB EEPROM, 2KB SRAM, 100-pin TQFP, Industrial Grade (-40°C to 85°C)
footprint 100A_N (Thin QFP, 100-Leads, Body 14x14mm, Pitch 0.5mm, IPC Medium Density)
footprint 100A_L (Thin QFP, 100-Leads, Body 14x14mm, Pitch 0.5mm, IPC High Density)
footprint 100A_M (Thin QFP, 100-Leads, Body 14x14mm, Pitch 0.5mm, IPC Low Density)
part A pins: 2 PE0 (RXD/PCINT0) (io), 3 PE1 (TXD/PCINT1) (io), 4 PE2 (XCK/AIN0/PCINT2) (io), 5 PE3 (AIN1/PCINT3) (io), 6 PE4 (USCK/SCL/PCINT4) (io), 7 PE5 (DI/SDA/PCINT5) (io), 8 PE6 (DO/PCINT6) (io), 9 PE7 (CLKO/PCINT7) (io), 10 VCC (power), 11 GND (power), 13 PJ0 (PCINT24) (io), 14 PJ1 (PCINT25) (io), 19 PB0 (~{SS}/PCINT8) (io), 20 PB1 (SCK/PCINT9) (io), 21 PB2 (MOSI/PCINT10) (io), 22 PB3 (MISO/PCINT11) (io), 23 PB4 (OC0A/PCINT12) (io), 24 PB5 (OC1A/PCINT13) (io), 25 PB6 (OC1B/PCINT14) (io), 26 PB7 (OC2A/PCINT15) (io), 28 PG3 (T1) (io), 29 PG4 (T0) (io), 30 ~{RESET}/PG5 (io), 31 VCC (power), 32 GND (power), 33 XTAL2 (TOSC2) (out), 34 XTAL1 (TOSC1) (in), 37 PJ2 (PCINT26) (io), 38 PJ3 (PCINT27) (io), 39 PJ4 (PCINT28) (io), 40 PJ5 (PCINT29) (io), 41 PJ6 (PCINT30) (io), 43 PD0 (ICP1) (io), 44 PD1 (INT0) (io), 45 PD2 (io), 46 PD3 (io), 47 PD4 (io), 48 PD5 (io), 49 PD6 (io), 50 PD7 (io), 51 PG0 (io), 52 PG1 (io), 53 PC0 (io), 54 PC1 (io), 55 PC2 (io), 56 PC3 (io), 57 PC4 (io), 58 PC5 (io), 63 PH0 (PCINT16) (io), 64 PH1 (PCINT17) (io), 65 PH2 (PCINT18) (io), 66 PH3 (PCINT19) (io), 68 PC6 (io), 69 PC7 (io), 70 PG2 (io), 71 PA7 (io), 72 PA6 (io), 73 PA5 (io), 74 PA4 (io), 75 PA3 (io), 76 PA2 (io), 77 PA1 (io), 78 PA0 (io), 80 VCC (power), 81 GND (power), 84 PH4 (PCINT20) (io), 85 PH5 (PCINT21) (io), 86 PH6 (PCINT22) (io), 87 PH7 (PCINT23) (io), 90 PF7 (ADC7/TDI) (io), 91 PF6 (ADC6/TDO) (io), 92 PF5 (ADC5/TMS) (io), 93 PF4 (ADC4/TCK) (io), 94 PF3 (ADC3) (io), 95 PF2 (ADC2) (io), 96 PF1 (ADC1) (io), 97 PF0 (ADC0) (io), 98 AREF (power), 99 AGND (power), 100 AVCC (power)
part B pins: 1 DNC, 12 DNC, 15 DNC, 16 DNC, 17 DNC, 18 DNC, 27 DNC, 35 DNC, 36 DNC, 42 DNC, 59 DNC, 60 DNC, 61 DNC, 62 DNC, 67 DNC, 79 DNC, 82 DNC, 83 DNC, 88 DNC, 89 DNC

## ATmega3250-16AU
designator U?
8-bit AVR Microcontroller, 2.7-5.5V, 32KB Flash, 1KB EEPROM, 2KB SRAM, 100-pin TQFP, Industrial Grade (-40°C to 85°C)
footprint 100A_N (Thin QFP, 100-Leads, Body 14x14mm, Pitch 0.5mm, IPC Medium Density)
footprint 100A_L (Thin QFP, 100-Leads, Body 14x14mm, Pitch 0.5mm, IPC High Density)
footprint 100A_M (Thin QFP, 100-Leads, Body 14x14mm, Pitch 0.5mm, IPC Low Density)
part A pins: 2 PE0 (RXD/PCINT0) (io), 3 PE1 (TXD/PCINT1) (io), 4 PE2 (XCK/AIN0/PCINT2) (io), 5 PE3 (AIN1/PCINT3) (io), 6 PE4 (USCK/SCL/PCINT4) (io), 7 PE5 (DI/SDA/PCINT5) (io), 8 PE6 (DO/PCINT6) (io), 9 PE7 (CLKO/PCINT7) (io), 10 VCC (power), 11 GND (power), 13 PJ0 (PCINT24) (io), 14 PJ1 (PCINT25) (io), 19 PB0 (~{SS}/PCINT8) (io), 20 PB1 (SCK/PCINT9) (io), 21 PB2 (MOSI/PCINT10) (io), 22 PB3 (MISO/PCINT11) (io), 23 PB4 (OC0A/PCINT12) (io), 24 PB5 (OC1A/PCINT13) (io), 25 PB6 (OC1B/PCINT14) (io), 26 PB7 (OC2A/PCINT15) (io), 28 PG3 (T1) (io), 29 PG4 (T0) (io), 30 ~{RESET}/PG5 (io), 31 VCC (power), 32 GND (power), 33 XTAL2 (TOSC2) (out), 34 XTAL1 (TOSC1) (in), 37 PJ2 (PCINT26) (io), 38 PJ3 (PCINT27) (io), 39 PJ4 (PCINT28) (io), 40 PJ5 (PCINT29) (io), 41 PJ6 (PCINT30) (io), 43 PD0 (ICP1) (io), 44 PD1 (INT0) (io), 45 PD2 (io), 46 PD3 (io), 47 PD4 (io), 48 PD5 (io), 49 PD6 (io), 50 PD7 (io), 51 PG0 (io), 52 PG1 (io), 53 PC0 (io), 54 PC1 (io), 55 PC2 (io), 56 PC3 (io), 57 PC4 (io), 58 PC5 (io), 63 PH0 (PCINT16) (io), 64 PH1 (PCINT17) (io), 65 PH2 (PCINT18) (io), 66 PH3 (PCINT19) (io), 68 PC6 (io), 69 PC7 (io), 70 PG2 (io), 71 PA7 (io), 72 PA6 (io), 73 PA5 (io), 74 PA4 (io), 75 PA3 (io), 76 PA2 (io), 77 PA1 (io), 78 PA0 (io), 80 VCC (power), 81 GND (power), 84 PH4 (PCINT20) (io), 85 PH5 (PCINT21) (io), 86 PH6 (PCINT22) (io), 87 PH7 (PCINT23) (io), 90 PF7 (ADC7/TDI) (io), 91 PF6 (ADC6/TDO) (io), 92 PF5 (ADC5/TMS) (io), 93 PF4 (ADC4/TCK) (io), 94 PF3 (ADC3) (io), 95 PF2 (ADC2) (io), 96 PF1 (ADC1) (io), 97 PF0 (ADC0) (io), 98 AREF (power), 99 AGND (power), 100 AVCC (power)
part B pins: 1 DNC, 12 DNC, 15 DNC, 16 DNC, 17 DNC, 18 DNC, 27 DNC, 35 DNC, 36 DNC, 42 DNC, 59 DNC, 60 DNC, 61 DNC, 62 DNC, 67 DNC, 79 DNC, 82 DNC, 83 DNC, 88 DNC, 89 DNC

## ATmega3250P-20AU
designator U?
8-bit AVR Microcontroller, 2.7-5.5V, 32KB Flash, 1KB EEPROM, 2KB SRAM, 100-pin TQFP, Industrial Grade (-40°C to 85°C)
footprint 100A_N (Thin QFP, 100-Leads, Body 14x14mm, Pitch 0.5mm, IPC Medium Density)
footprint 100A_L (Thin QFP, 100-Leads, Body 14x14mm, Pitch 0.5mm, IPC High Density)
footprint 100A_M (Thin QFP, 100-Leads, Body 14x14mm, Pitch 0.5mm, IPC Low Density)
part A pins: 2 PE0 (RXD/PCINT0) (io), 3 PE1 (TXD/PCINT1) (io), 4 PE2 (XCK/AIN0/PCINT2) (io), 5 PE3 (AIN1/PCINT3) (io), 6 PE4 (USCK/SCL/PCINT4) (io), 7 PE5 (DI/SDA/PCINT5) (io), 8 PE6 (DO/PCINT6) (io), 9 PE7 (CLKO/PCINT7) (io), 10 VCC (power), 11 GND (power), 13 PJ0 (PCINT24) (io), 14 PJ1 (PCINT25) (io), 19 PB0 (~{SS}/PCINT8) (io), 20 PB1 (SCK/PCINT9) (io), 21 PB2 (MOSI/PCINT10) (io), 22 PB3 (MISO/PCINT11) (io), 23 PB4 (OC0A/PCINT12) (io), 24 PB5 (OC1A/PCINT13) (io), 25 PB6 (OC1B/PCINT14) (io), 26 PB7 (OC2A/PCINT15) (io), 28 PG3 (T1) (io), 29 PG4 (T0) (io), 30 ~{RESET}/PG5 (io), 31 VCC (power), 32 GND (power), 33 XTAL2 (TOSC2) (out), 34 XTAL1 (TOSC1) (in), 37 PJ2 (PCINT26) (io), 38 PJ3 (PCINT27) (io), 39 PJ4 (PCINT28) (io), 40 PJ5 (PCINT29) (io), 41 PJ6 (PCINT30) (io), 43 PD0 (ICP1) (io), 44 PD1 (INT0) (io), 45 PD2 (io), 46 PD3 (io), 47 PD4 (io), 48 PD5 (io), 49 PD6 (io), 50 PD7 (io), 51 PG0 (io), 52 PG1 (io), 53 PC0 (io), 54 PC1 (io), 55 PC2 (io), 56 PC3 (io), 57 PC4 (io), 58 PC5 (io), 63 PH0 (PCINT16) (io), 64 PH1 (PCINT17) (io), 65 PH2 (PCINT18) (io), 66 PH3 (PCINT19) (io), 68 PC6 (io), 69 PC7 (io), 70 PG2 (io), 71 PA7 (io), 72 PA6 (io), 73 PA5 (io), 74 PA4 (io), 75 PA3 (io), 76 PA2 (io), 77 PA1 (io), 78 PA0 (io), 80 VCC (power), 81 GND (power), 84 PH4 (PCINT20) (io), 85 PH5 (PCINT21) (io), 86 PH6 (PCINT22) (io), 87 PH7 (PCINT23) (io), 90 PF7 (ADC7/TDI) (io), 91 PF6 (ADC6/TDO) (io), 92 PF5 (ADC5/TMS) (io), 93 PF4 (ADC4/TCK) (io), 94 PF3 (ADC3) (io), 95 PF2 (ADC2) (io), 96 PF1 (ADC1) (io), 97 PF0 (ADC0) (io), 98 AREF (power), 99 AGND (power), 100 AVCC (power)
part B pins: 1 DNC, 12 DNC, 15 DNC, 16 DNC, 17 DNC, 18 DNC, 27 DNC, 35 DNC, 36 DNC, 42 DNC, 59 DNC, 60 DNC, 61 DNC, 62 DNC, 67 DNC, 79 DNC, 82 DNC, 83 DNC, 88 DNC, 89 DNC

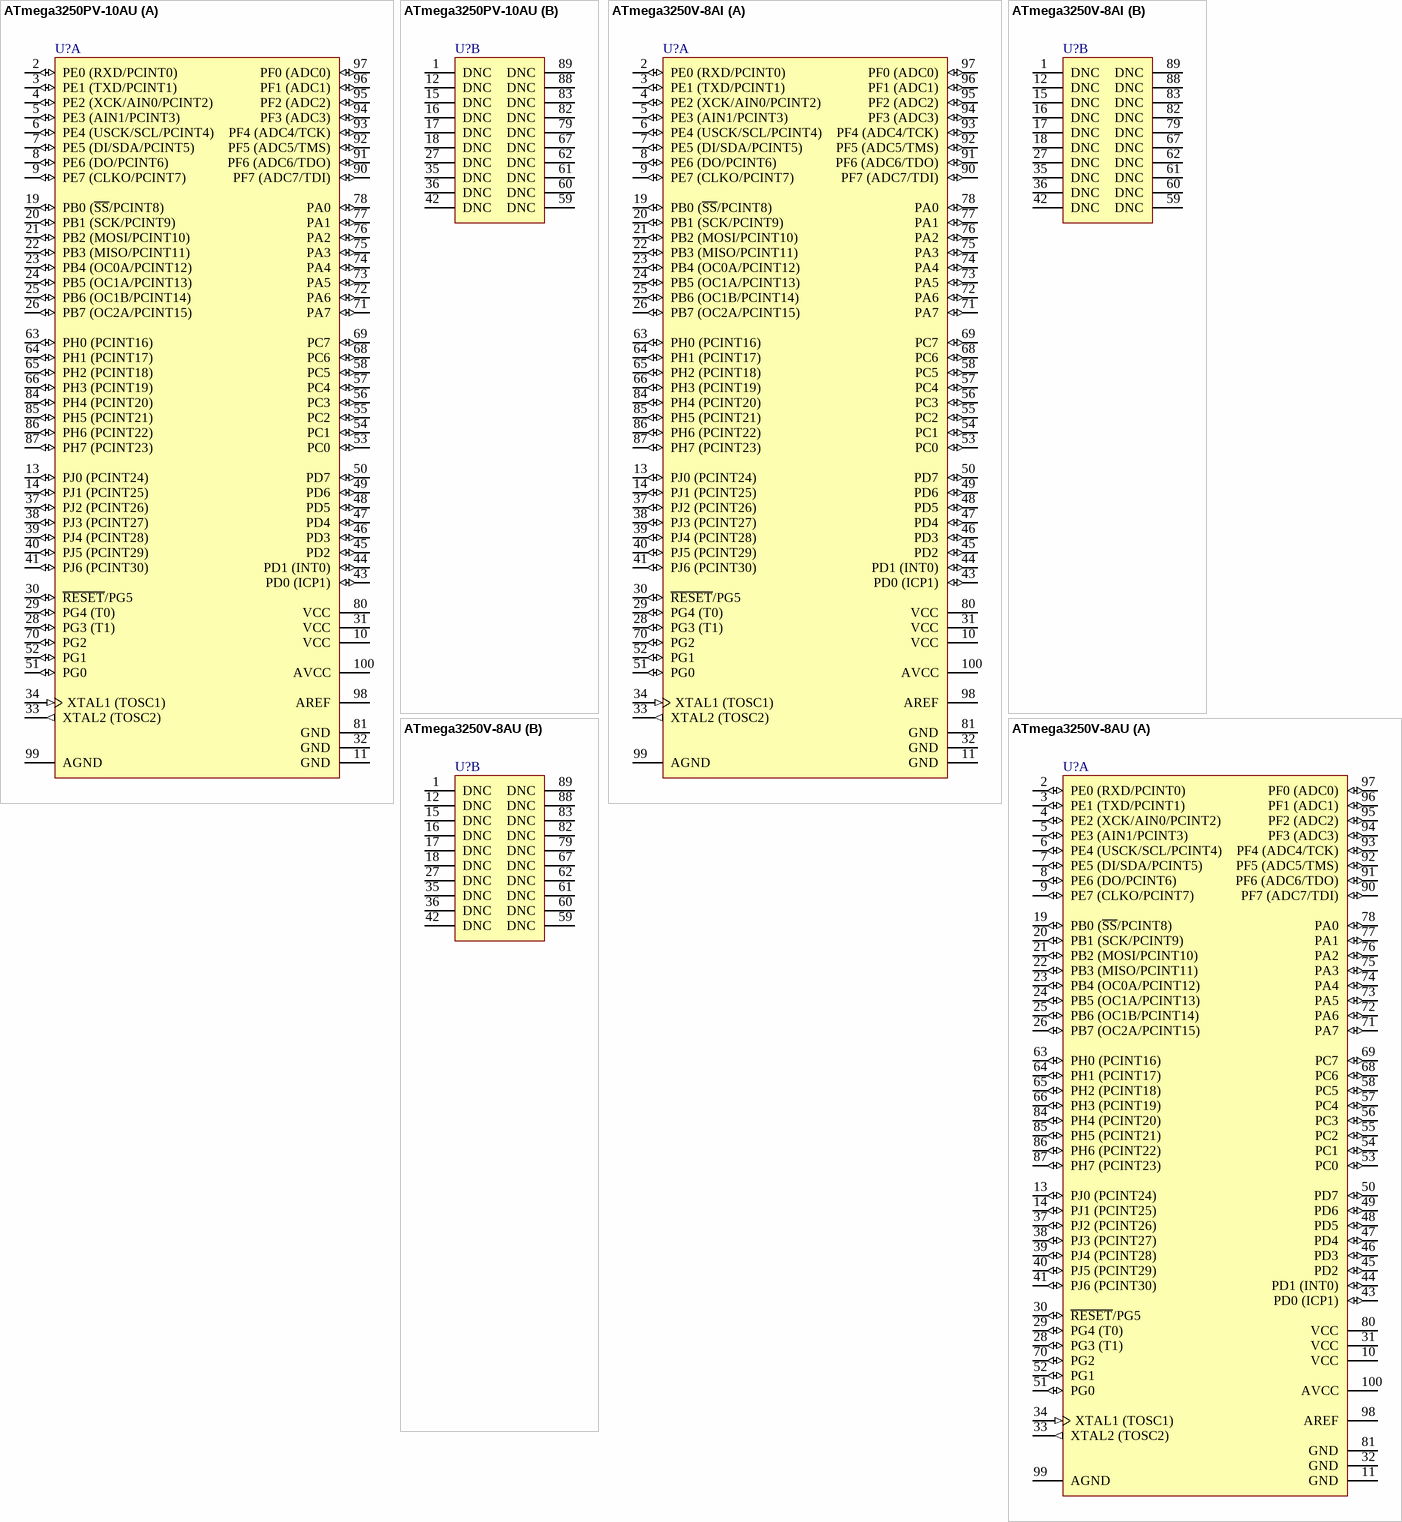
[diagram p33: symbols ATmega3250PV-10AU to ATmega3250V-8AU]

## ATmega3250PV-10AU
designator U?
8-bit AVR Microcontroller, 1.8-5.5V, 32KB Flash, 1KB EEPROM, 2KB SRAM, 100-pin TQFP, Industrial Grade (-40°C to 85°C)
footprint 100A_N (Thin QFP, 100-Leads, Body 14x14mm, Pitch 0.5mm, IPC Medium Density)
footprint 100A_L (Thin QFP, 100-Leads, Body 14x14mm, Pitch 0.5mm, IPC High Density)
footprint 100A_M (Thin QFP, 100-Leads, Body 14x14mm, Pitch 0.5mm, IPC Low Density)
part A pins: 2 PE0 (RXD/PCINT0) (io), 3 PE1 (TXD/PCINT1) (io), 4 PE2 (XCK/AIN0/PCINT2) (io), 5 PE3 (AIN1/PCINT3) (io), 6 PE4 (USCK/SCL/PCINT4) (io), 7 PE5 (DI/SDA/PCINT5) (io), 8 PE6 (DO/PCINT6) (io), 9 PE7 (CLKO/PCINT7) (io), 10 VCC (power), 11 GND (power), 13 PJ0 (PCINT24) (io), 14 PJ1 (PCINT25) (io), 19 PB0 (~{SS}/PCINT8) (io), 20 PB1 (SCK/PCINT9) (io), 21 PB2 (MOSI/PCINT10) (io), 22 PB3 (MISO/PCINT11) (io), 23 PB4 (OC0A/PCINT12) (io), 24 PB5 (OC1A/PCINT13) (io), 25 PB6 (OC1B/PCINT14) (io), 26 PB7 (OC2A/PCINT15) (io), 28 PG3 (T1) (io), 29 PG4 (T0) (io), 30 ~{RESET}/PG5 (io), 31 VCC (power), 32 GND (power), 33 XTAL2 (TOSC2) (out), 34 XTAL1 (TOSC1) (in), 37 PJ2 (PCINT26) (io), 38 PJ3 (PCINT27) (io), 39 PJ4 (PCINT28) (io), 40 PJ5 (PCINT29) (io), 41 PJ6 (PCINT30) (io), 43 PD0 (ICP1) (io), 44 PD1 (INT0) (io), 45 PD2 (io), 46 PD3 (io), 47 PD4 (io), 48 PD5 (io), 49 PD6 (io), 50 PD7 (io), 51 PG0 (io), 52 PG1 (io), 53 PC0 (io), 54 PC1 (io), 55 PC2 (io), 56 PC3 (io), 57 PC4 (io), 58 PC5 (io), 63 PH0 (PCINT16) (io), 64 PH1 (PCINT17) (io), 65 PH2 (PCINT18) (io), 66 PH3 (PCINT19) (io), 68 PC6 (io), 69 PC7 (io), 70 PG2 (io), 71 PA7 (io), 72 PA6 (io), 73 PA5 (io), 74 PA4 (io), 75 PA3 (io), 76 PA2 (io), 77 PA1 (io), 78 PA0 (io), 80 VCC (power), 81 GND (power), 84 PH4 (PCINT20) (io), 85 PH5 (PCINT21) (io), 86 PH6 (PCINT22) (io), 87 PH7 (PCINT23) (io), 90 PF7 (ADC7/TDI) (io), 91 PF6 (ADC6/TDO) (io), 92 PF5 (ADC5/TMS) (io), 93 PF4 (ADC4/TCK) (io), 94 PF3 (ADC3) (io), 95 PF2 (ADC2) (io), 96 PF1 (ADC1) (io), 97 PF0 (ADC0) (io), 98 AREF (power), 99 AGND (power), 100 AVCC (power)
part B pins: 1 DNC, 12 DNC, 15 DNC, 16 DNC, 17 DNC, 18 DNC, 27 DNC, 35 DNC, 36 DNC, 42 DNC, 59 DNC, 60 DNC, 61 DNC, 62 DNC, 67 DNC, 79 DNC, 82 DNC, 83 DNC, 88 DNC, 89 DNC

## ATmega3250V-8AI
designator U?
8-bit AVR Microcontroller, 1.8-5.5V, 32KB Flash, 1KB EEPROM, 2KB SRAM, 100-pin TQFP, Industrial Grade (-40°C to 85°C)
footprint 100A_N (Thin QFP, 100-Leads, Body 14x14mm, Pitch 0.5mm, IPC Medium Density)
footprint 100A_L (Thin QFP, 100-Leads, Body 14x14mm, Pitch 0.5mm, IPC High Density)
footprint 100A_M (Thin QFP, 100-Leads, Body 14x14mm, Pitch 0.5mm, IPC Low Density)
part A pins: 2 PE0 (RXD/PCINT0) (io), 3 PE1 (TXD/PCINT1) (io), 4 PE2 (XCK/AIN0/PCINT2) (io), 5 PE3 (AIN1/PCINT3) (io), 6 PE4 (USCK/SCL/PCINT4) (io), 7 PE5 (DI/SDA/PCINT5) (io), 8 PE6 (DO/PCINT6) (io), 9 PE7 (CLKO/PCINT7) (io), 10 VCC (power), 11 GND (power), 13 PJ0 (PCINT24) (io), 14 PJ1 (PCINT25) (io), 19 PB0 (~{SS}/PCINT8) (io), 20 PB1 (SCK/PCINT9) (io), 21 PB2 (MOSI/PCINT10) (io), 22 PB3 (MISO/PCINT11) (io), 23 PB4 (OC0A/PCINT12) (io), 24 PB5 (OC1A/PCINT13) (io), 25 PB6 (OC1B/PCINT14) (io), 26 PB7 (OC2A/PCINT15) (io), 28 PG3 (T1) (io), 29 PG4 (T0) (io), 30 ~{RESET}/PG5 (io), 31 VCC (power), 32 GND (power), 33 XTAL2 (TOSC2) (out), 34 XTAL1 (TOSC1) (in), 37 PJ2 (PCINT26) (io), 38 PJ3 (PCINT27) (io), 39 PJ4 (PCINT28) (io), 40 PJ5 (PCINT29) (io), 41 PJ6 (PCINT30) (io), 43 PD0 (ICP1) (io), 44 PD1 (INT0) (io), 45 PD2 (io), 46 PD3 (io), 47 PD4 (io), 48 PD5 (io), 49 PD6 (io), 50 PD7 (io), 51 PG0 (io), 52 PG1 (io), 53 PC0 (io), 54 PC1 (io), 55 PC2 (io), 56 PC3 (io), 57 PC4 (io), 58 PC5 (io), 63 PH0 (PCINT16) (io), 64 PH1 (PCINT17) (io), 65 PH2 (PCINT18) (io), 66 PH3 (PCINT19) (io), 68 PC6 (io), 69 PC7 (io), 70 PG2 (io), 71 PA7 (io), 72 PA6 (io), 73 PA5 (io), 74 PA4 (io), 75 PA3 (io), 76 PA2 (io), 77 PA1 (io), 78 PA0 (io), 80 VCC (power), 81 GND (power), 84 PH4 (PCINT20) (io), 85 PH5 (PCINT21) (io), 86 PH6 (PCINT22) (io), 87 PH7 (PCINT23) (io), 90 PF7 (ADC7/TDI) (io), 91 PF6 (ADC6/TDO) (io), 92 PF5 (ADC5/TMS) (io), 93 PF4 (ADC4/TCK) (io), 94 PF3 (ADC3) (io), 95 PF2 (ADC2) (io), 96 PF1 (ADC1) (io), 97 PF0 (ADC0) (io), 98 AREF (power), 99 AGND (power), 100 AVCC (power)
part B pins: 1 DNC, 12 DNC, 15 DNC, 16 DNC, 17 DNC, 18 DNC, 27 DNC, 35 DNC, 36 DNC, 42 DNC, 59 DNC, 60 DNC, 61 DNC, 62 DNC, 67 DNC, 79 DNC, 82 DNC, 83 DNC, 88 DNC, 89 DNC

## ATmega3250V-8AU
designator U?
8-bit AVR Microcontroller, 1.8-5.5V, 32KB Flash, 1KB EEPROM, 2KB SRAM, 100-pin TQFP, Industrial Grade (-40°C to 85°C)
footprint 100A_N (Thin QFP, 100-Leads, Body 14x14mm, Pitch 0.5mm, IPC Medium Density)
footprint 100A_L (Thin QFP, 100-Leads, Body 14x14mm, Pitch 0.5mm, IPC High Density)
footprint 100A_M (Thin QFP, 100-Leads, Body 14x14mm, Pitch 0.5mm, IPC Low Density)
part A pins: 2 PE0 (RXD/PCINT0) (io), 3 PE1 (TXD/PCINT1) (io), 4 PE2 (XCK/AIN0/PCINT2) (io), 5 PE3 (AIN1/PCINT3) (io), 6 PE4 (USCK/SCL/PCINT4) (io), 7 PE5 (DI/SDA/PCINT5) (io), 8 PE6 (DO/PCINT6) (io), 9 PE7 (CLKO/PCINT7) (io), 10 VCC (power), 11 GND (power), 13 PJ0 (PCINT24) (io), 14 PJ1 (PCINT25) (io), 19 PB0 (~{SS}/PCINT8) (io), 20 PB1 (SCK/PCINT9) (io), 21 PB2 (MOSI/PCINT10) (io), 22 PB3 (MISO/PCINT11) (io), 23 PB4 (OC0A/PCINT12) (io), 24 PB5 (OC1A/PCINT13) (io), 25 PB6 (OC1B/PCINT14) (io), 26 PB7 (OC2A/PCINT15) (io), 28 PG3 (T1) (io), 29 PG4 (T0) (io), 30 ~{RESET}/PG5 (io), 31 VCC (power), 32 GND (power), 33 XTAL2 (TOSC2) (out), 34 XTAL1 (TOSC1) (in), 37 PJ2 (PCINT26) (io), 38 PJ3 (PCINT27) (io), 39 PJ4 (PCINT28) (io), 40 PJ5 (PCINT29) (io), 41 PJ6 (PCINT30) (io), 43 PD0 (ICP1) (io), 44 PD1 (INT0) (io), 45 PD2 (io), 46 PD3 (io), 47 PD4 (io), 48 PD5 (io), 49 PD6 (io), 50 PD7 (io), 51 PG0 (io), 52 PG1 (io), 53 PC0 (io), 54 PC1 (io), 55 PC2 (io), 56 PC3 (io), 57 PC4 (io), 58 PC5 (io), 63 PH0 (PCINT16) (io), 64 PH1 (PCINT17) (io), 65 PH2 (PCINT18) (io), 66 PH3 (PCINT19) (io), 68 PC6 (io), 69 PC7 (io), 70 PG2 (io), 71 PA7 (io), 72 PA6 (io), 73 PA5 (io), 74 PA4 (io), 75 PA3 (io), 76 PA2 (io), 77 PA1 (io), 78 PA0 (io), 80 VCC (power), 81 GND (power), 84 PH4 (PCINT20) (io), 85 PH5 (PCINT21) (io), 86 PH6 (PCINT22) (io), 87 PH7 (PCINT23) (io), 90 PF7 (ADC7/TDI) (io), 91 PF6 (ADC6/TDO) (io), 92 PF5 (ADC5/TMS) (io), 93 PF4 (ADC4/TCK) (io), 94 PF3 (ADC3) (io), 95 PF2 (ADC2) (io), 96 PF1 (ADC1) (io), 97 PF0 (ADC0) (io), 98 AREF (power), 99 AGND (power), 100 AVCC (power)
part B pins: 1 DNC, 12 DNC, 15 DNC, 16 DNC, 17 DNC, 18 DNC, 27 DNC, 35 DNC, 36 DNC, 42 DNC, 59 DNC, 60 DNC, 61 DNC, 62 DNC, 67 DNC, 79 DNC, 82 DNC, 83 DNC, 88 DNC, 89 DNC

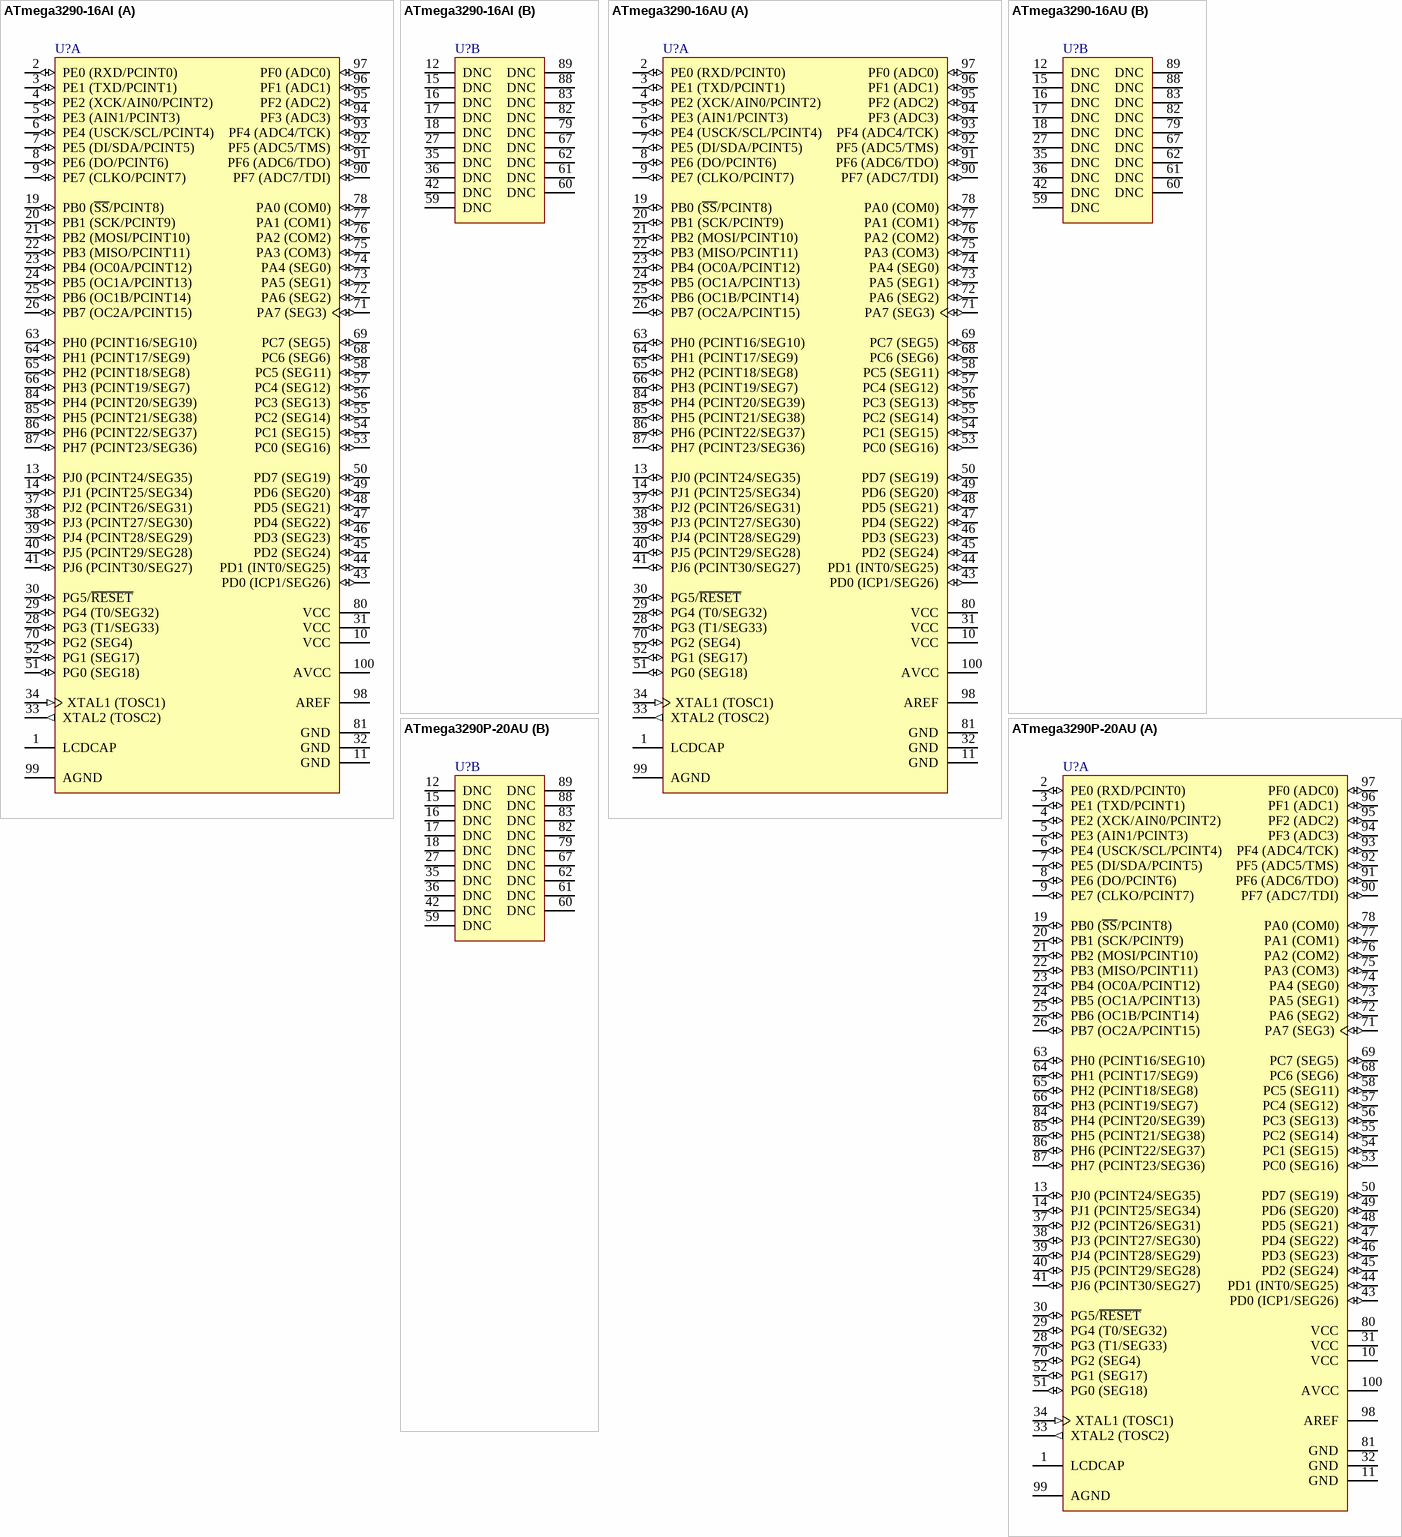
[diagram p34: symbols ATmega3290-16AI to ATmega3290P-20AU]

## ATmega3290-16AI
designator U?
8-bit AVR Microcontroller, 2.7-5.5V, 32KB Flash, 1KB EEPROM, 2KB SRAM, 100-pin TQFP, Industrial Grade (-40°C to 85°C)
footprint 100A_N (Thin QFP, 100-Leads, Body 14x14mm, Pitch 0.5mm, IPC Medium Density)
footprint 100A_L (Thin QFP, 100-Leads, Body 14x14mm, Pitch 0.5mm, IPC High Density)
footprint 100A_M (Thin QFP, 100-Leads, Body 14x14mm, Pitch 0.5mm, IPC Low Density)
part A pins: 1 LCDCAP, 2 PE0 (RXD/PCINT0) (io), 3 PE1 (TXD/PCINT1) (io), 4 PE2 (XCK/AIN0/PCINT2) (io), 5 PE3 (AIN1/PCINT3) (io), 6 PE4 (USCK/SCL/PCINT4) (io), 7 PE5 (DI/SDA/PCINT5) (io), 8 PE6 (DO/PCINT6) (io), 9 PE7 (CLKO/PCINT7) (io), 10 VCC (power), 11 GND (power), 13 PJ0 (PCINT24/SEG35) (io), 14 PJ1 (PCINT25/SEG34) (io), 19 PB0 (~{SS}/PCINT8) (io), 20 PB1 (SCK/PCINT9) (io), 21 PB2 (MOSI/PCINT10) (io), 22 PB3 (MISO/PCINT11) (io), 23 PB4 (OC0A/PCINT12) (io), 24 PB5 (OC1A/PCINT13) (io), 25 PB6 (OC1B/PCINT14) (io), 26 PB7 (OC2A/PCINT15) (io), 28 PG3 (T1/SEG33) (io), 29 PG4 (T0/SEG32) (io), 30 PG5/~{RESET} (io), 31 VCC (power), 32 GND (power), 33 XTAL2 (TOSC2) (out), 34 XTAL1 (TOSC1) (in), 37 PJ2 (PCINT26/SEG31) (io), 38 PJ3 (PCINT27/SEG30) (io), 39 PJ4 (PCINT28/SEG29) (io), 40 PJ5 (PCINT29/SEG28) (io), 41 PJ6 (PCINT30/SEG27) (io), 43 PD0 (ICP1/SEG26) (io), 44 PD1 (INT0/SEG25) (io), 45 PD2 (SEG24) (io), 46 PD3 (SEG23) (io), 47 PD4 (SEG22) (io), 48 PD5 (SEG21) (io), 49 PD6 (SEG20) (io), 50 PD7 (SEG19) (io), 51 PG0 (SEG18) (io), 52 PG1 (SEG17) (io), 53 PC0 (SEG16) (io), 54 PC1 (SEG15) (io), 55 PC2 (SEG14) (io), 56 PC3 (SEG13) (io), 57 PC4 (SEG12) (io), 58 PC5 (SEG11) (io), 63 PH0 (PCINT16/SEG10) (io), 64 PH1 (PCINT17/SEG9) (io), 65 PH2 (PCINT18/SEG8) (io), 66 PH3 (PCINT19/SEG7) (io), 68 PC6 (SEG6) (io), 69 PC7 (SEG5) (io), 70 PG2 (SEG4) (io), 71 PA7 (SEG3) (io), 72 PA6 (SEG2) (io), 73 PA5 (SEG1) (io), 74 PA4 (SEG0) (io), 75 PA3 (COM3) (io), 76 PA2 (COM2) (io), 77 PA1 (COM1) (io), 78 PA0 (COM0) (io), 80 VCC (power), 81 GND (power), 84 PH4 (PCINT20/SEG39) (io), 85 PH5 (PCINT21/SEG38) (io), 86 PH6 (PCINT22/SEG37) (io), 87 PH7 (PCINT23/SEG36) (io), 90 PF7 (ADC7/TDI) (io), 91 PF6 (ADC6/TDO) (io), 92 PF5 (ADC5/TMS) (io), 93 PF4 (ADC4/TCK) (io), 94 PF3 (ADC3) (io), 95 PF2 (ADC2) (io), 96 PF1 (ADC1) (io), 97 PF0 (ADC0) (io), 98 AREF (power), 99 AGND (power), 100 AVCC (power)
part B pins: 12 DNC, 15 DNC, 16 DNC, 17 DNC, 18 DNC, 27 DNC, 35 DNC, 36 DNC, 42 DNC, 59 DNC, 60 DNC, 61 DNC, 62 DNC, 67 DNC, 79 DNC, 82 DNC, 83 DNC, 88 DNC, 89 DNC

## ATmega3290-16AU
designator U?
8-bit AVR Microcontroller, 2.7-5.5V, 32KB Flash, 1KB EEPROM, 2KB SRAM, 100-pin TQFP, Industrial Grade (-40°C to 85°C)
footprint 100A_N (Thin QFP, 100-Leads, Body 14x14mm, Pitch 0.5mm, IPC Medium Density)
footprint 100A_L (Thin QFP, 100-Leads, Body 14x14mm, Pitch 0.5mm, IPC High Density)
footprint 100A_M (Thin QFP, 100-Leads, Body 14x14mm, Pitch 0.5mm, IPC Low Density)
part A pins: 1 LCDCAP, 2 PE0 (RXD/PCINT0) (io), 3 PE1 (TXD/PCINT1) (io), 4 PE2 (XCK/AIN0/PCINT2) (io), 5 PE3 (AIN1/PCINT3) (io), 6 PE4 (USCK/SCL/PCINT4) (io), 7 PE5 (DI/SDA/PCINT5) (io), 8 PE6 (DO/PCINT6) (io), 9 PE7 (CLKO/PCINT7) (io), 10 VCC (power), 11 GND (power), 13 PJ0 (PCINT24/SEG35) (io), 14 PJ1 (PCINT25/SEG34) (io), 19 PB0 (~{SS}/PCINT8) (io), 20 PB1 (SCK/PCINT9) (io), 21 PB2 (MOSI/PCINT10) (io), 22 PB3 (MISO/PCINT11) (io), 23 PB4 (OC0A/PCINT12) (io), 24 PB5 (OC1A/PCINT13) (io), 25 PB6 (OC1B/PCINT14) (io), 26 PB7 (OC2A/PCINT15) (io), 28 PG3 (T1/SEG33) (io), 29 PG4 (T0/SEG32) (io), 30 PG5/~{RESET} (io), 31 VCC (power), 32 GND (power), 33 XTAL2 (TOSC2) (out), 34 XTAL1 (TOSC1) (in), 37 PJ2 (PCINT26/SEG31) (io), 38 PJ3 (PCINT27/SEG30) (io), 39 PJ4 (PCINT28/SEG29) (io), 40 PJ5 (PCINT29/SEG28) (io), 41 PJ6 (PCINT30/SEG27) (io), 43 PD0 (ICP1/SEG26) (io), 44 PD1 (INT0/SEG25) (io), 45 PD2 (SEG24) (io), 46 PD3 (SEG23) (io), 47 PD4 (SEG22) (io), 48 PD5 (SEG21) (io), 49 PD6 (SEG20) (io), 50 PD7 (SEG19) (io), 51 PG0 (SEG18) (io), 52 PG1 (SEG17) (io), 53 PC0 (SEG16) (io), 54 PC1 (SEG15) (io), 55 PC2 (SEG14) (io), 56 PC3 (SEG13) (io), 57 PC4 (SEG12) (io), 58 PC5 (SEG11) (io), 63 PH0 (PCINT16/SEG10) (io), 64 PH1 (PCINT17/SEG9) (io), 65 PH2 (PCINT18/SEG8) (io), 66 PH3 (PCINT19/SEG7) (io), 68 PC6 (SEG6) (io), 69 PC7 (SEG5) (io), 70 PG2 (SEG4) (io), 71 PA7 (SEG3) (io), 72 PA6 (SEG2) (io), 73 PA5 (SEG1) (io), 74 PA4 (SEG0) (io), 75 PA3 (COM3) (io), 76 PA2 (COM2) (io), 77 PA1 (COM1) (io), 78 PA0 (COM0) (io), 80 VCC (power), 81 GND (power), 84 PH4 (PCINT20/SEG39) (io), 85 PH5 (PCINT21/SEG38) (io), 86 PH6 (PCINT22/SEG37) (io), 87 PH7 (PCINT23/SEG36) (io), 90 PF7 (ADC7/TDI) (io), 91 PF6 (ADC6/TDO) (io), 92 PF5 (ADC5/TMS) (io), 93 PF4 (ADC4/TCK) (io), 94 PF3 (ADC3) (io), 95 PF2 (ADC2) (io), 96 PF1 (ADC1) (io), 97 PF0 (ADC0) (io), 98 AREF (power), 99 AGND (power), 100 AVCC (power)
part B pins: 12 DNC, 15 DNC, 16 DNC, 17 DNC, 18 DNC, 27 DNC, 35 DNC, 36 DNC, 42 DNC, 59 DNC, 60 DNC, 61 DNC, 62 DNC, 67 DNC, 79 DNC, 82 DNC, 83 DNC, 88 DNC, 89 DNC

## ATmega3290P-20AU
designator U?
8-bit AVR Microcontroller, 2.7-5.5V, 32KB Flash, 1KB EEPROM, 2KB SRAM, 100-pin TQFP, Industrial Grade (-40°C to 85°C)
footprint 100A_N (Thin QFP, 100-Leads, Body 14x14mm, Pitch 0.5mm, IPC Medium Density)
footprint 100A_L (Thin QFP, 100-Leads, Body 14x14mm, Pitch 0.5mm, IPC High Density)
footprint 100A_M (Thin QFP, 100-Leads, Body 14x14mm, Pitch 0.5mm, IPC Low Density)
part A pins: 1 LCDCAP, 2 PE0 (RXD/PCINT0) (io), 3 PE1 (TXD/PCINT1) (io), 4 PE2 (XCK/AIN0/PCINT2) (io), 5 PE3 (AIN1/PCINT3) (io), 6 PE4 (USCK/SCL/PCINT4) (io), 7 PE5 (DI/SDA/PCINT5) (io), 8 PE6 (DO/PCINT6) (io), 9 PE7 (CLKO/PCINT7) (io), 10 VCC (power), 11 GND (power), 13 PJ0 (PCINT24/SEG35) (io), 14 PJ1 (PCINT25/SEG34) (io), 19 PB0 (~{SS}/PCINT8) (io), 20 PB1 (SCK/PCINT9) (io), 21 PB2 (MOSI/PCINT10) (io), 22 PB3 (MISO/PCINT11) (io), 23 PB4 (OC0A/PCINT12) (io), 24 PB5 (OC1A/PCINT13) (io), 25 PB6 (OC1B/PCINT14) (io), 26 PB7 (OC2A/PCINT15) (io), 28 PG3 (T1/SEG33) (io), 29 PG4 (T0/SEG32) (io), 30 PG5/~{RESET} (io), 31 VCC (power), 32 GND (power), 33 XTAL2 (TOSC2) (out), 34 XTAL1 (TOSC1) (in), 37 PJ2 (PCINT26/SEG31) (io), 38 PJ3 (PCINT27/SEG30) (io), 39 PJ4 (PCINT28/SEG29) (io), 40 PJ5 (PCINT29/SEG28) (io), 41 PJ6 (PCINT30/SEG27) (io), 43 PD0 (ICP1/SEG26) (io), 44 PD1 (INT0/SEG25) (io), 45 PD2 (SEG24) (io), 46 PD3 (SEG23) (io), 47 PD4 (SEG22) (io), 48 PD5 (SEG21) (io), 49 PD6 (SEG20) (io), 50 PD7 (SEG19) (io), 51 PG0 (SEG18) (io), 52 PG1 (SEG17) (io), 53 PC0 (SEG16) (io), 54 PC1 (SEG15) (io), 55 PC2 (SEG14) (io), 56 PC3 (SEG13) (io), 57 PC4 (SEG12) (io), 58 PC5 (SEG11) (io), 63 PH0 (PCINT16/SEG10) (io), 64 PH1 (PCINT17/SEG9) (io), 65 PH2 (PCINT18/SEG8) (io), 66 PH3 (PCINT19/SEG7) (io), 68 PC6 (SEG6) (io), 69 PC7 (SEG5) (io), 70 PG2 (SEG4) (io), 71 PA7 (SEG3) (io), 72 PA6 (SEG2) (io), 73 PA5 (SEG1) (io), 74 PA4 (SEG0) (io), 75 PA3 (COM3) (io), 76 PA2 (COM2) (io), 77 PA1 (COM1) (io), 78 PA0 (COM0) (io), 80 VCC (power), 81 GND (power), 84 PH4 (PCINT20/SEG39) (io), 85 PH5 (PCINT21/SEG38) (io), 86 PH6 (PCINT22/SEG37) (io), 87 PH7 (PCINT23/SEG36) (io), 90 PF7 (ADC7/TDI) (io), 91 PF6 (ADC6/TDO) (io), 92 PF5 (ADC5/TMS) (io), 93 PF4 (ADC4/TCK) (io), 94 PF3 (ADC3) (io), 95 PF2 (ADC2) (io), 96 PF1 (ADC1) (io), 97 PF0 (ADC0) (io), 98 AREF (power), 99 AGND (power), 100 AVCC (power)
part B pins: 12 DNC, 15 DNC, 16 DNC, 17 DNC, 18 DNC, 27 DNC, 35 DNC, 36 DNC, 42 DNC, 59 DNC, 60 DNC, 61 DNC, 62 DNC, 67 DNC, 79 DNC, 82 DNC, 83 DNC, 88 DNC, 89 DNC

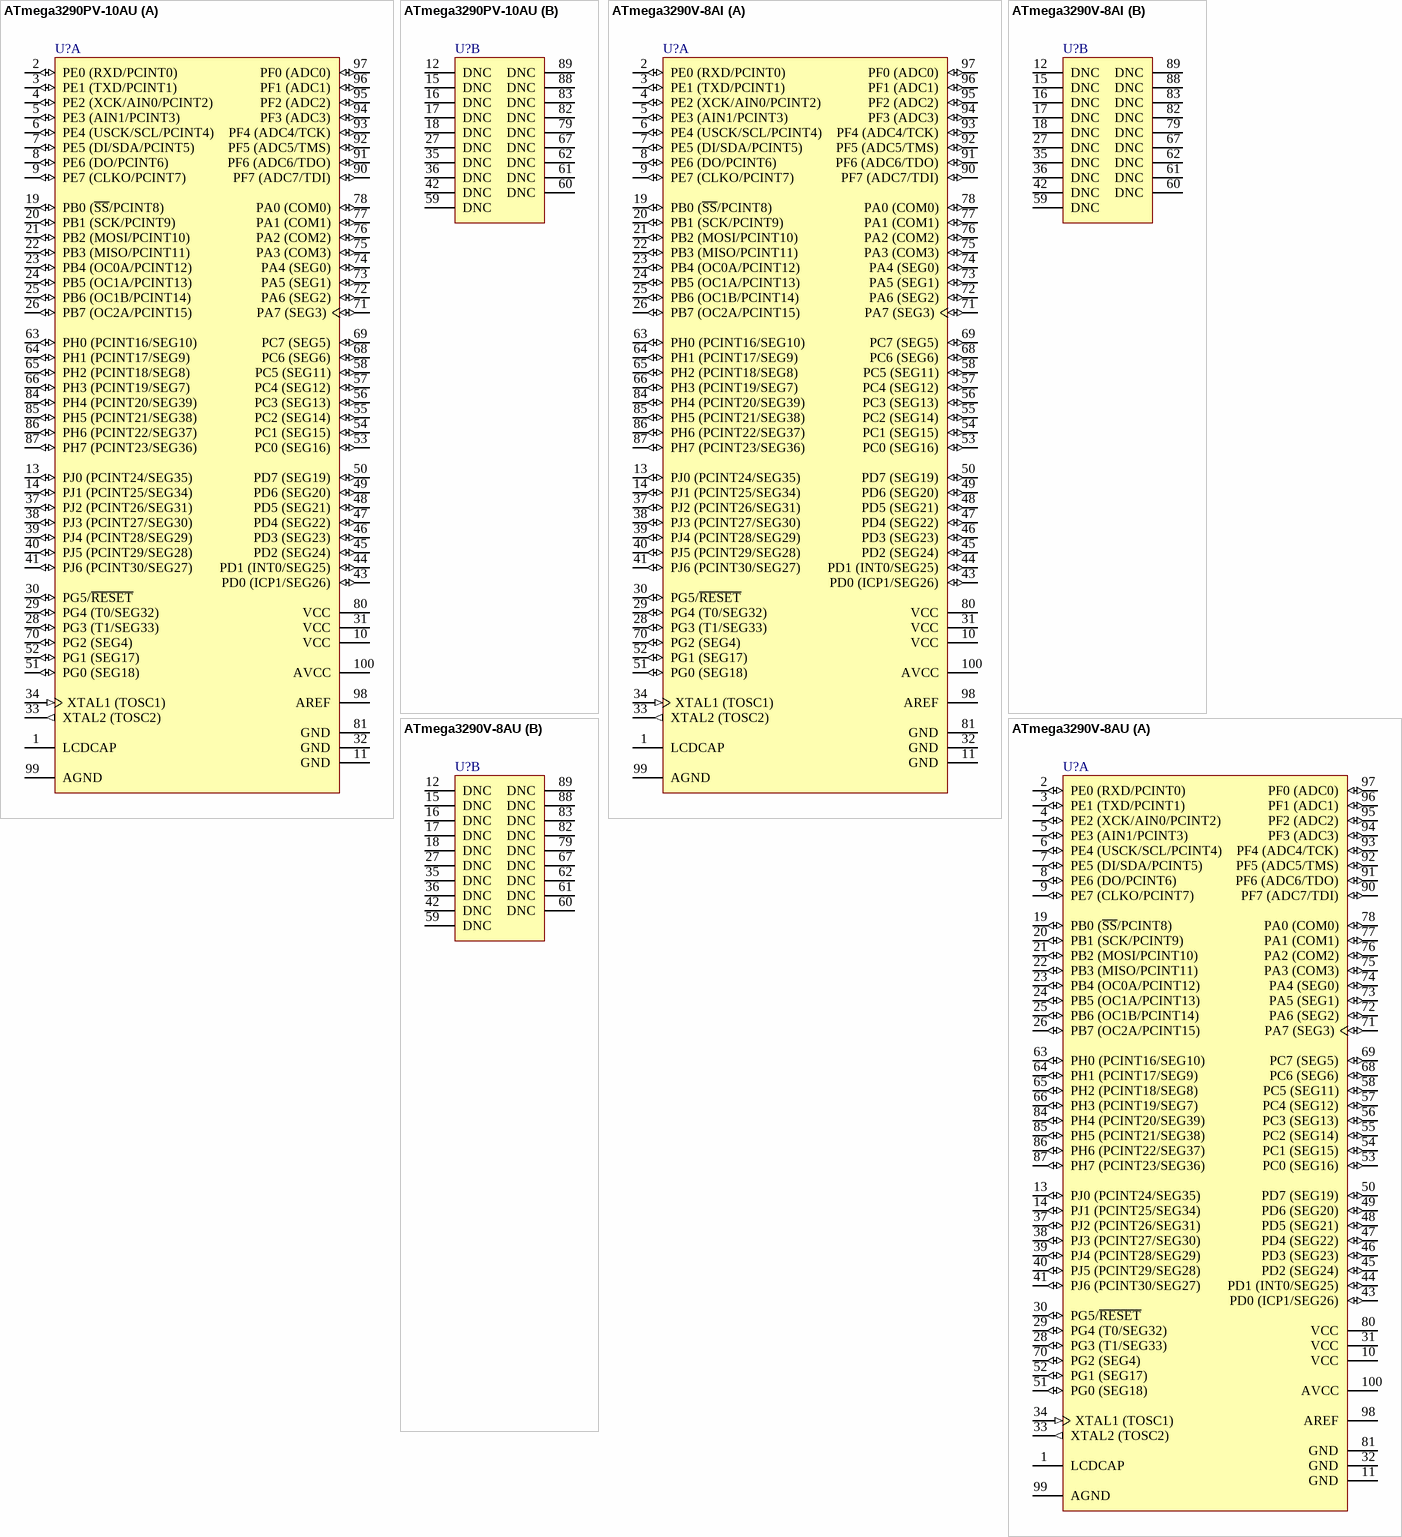
[diagram p35: symbols ATmega3290PV-10AU to ATmega3290V-8AU]

## ATmega3290PV-10AU
designator U?
8-bit AVR Microcontroller, 1.8-5.5V, 32KB Flash, 1KB EEPROM, 2KB SRAM, 100-pin TQFP, Industrial Grade (-40°C to 85°C)
footprint 100A_N (Thin QFP, 100-Leads, Body 14x14mm, Pitch 0.5mm, IPC Medium Density)
footprint 100A_L (Thin QFP, 100-Leads, Body 14x14mm, Pitch 0.5mm, IPC High Density)
footprint 100A_M (Thin QFP, 100-Leads, Body 14x14mm, Pitch 0.5mm, IPC Low Density)
part A pins: 1 LCDCAP, 2 PE0 (RXD/PCINT0) (io), 3 PE1 (TXD/PCINT1) (io), 4 PE2 (XCK/AIN0/PCINT2) (io), 5 PE3 (AIN1/PCINT3) (io), 6 PE4 (USCK/SCL/PCINT4) (io), 7 PE5 (DI/SDA/PCINT5) (io), 8 PE6 (DO/PCINT6) (io), 9 PE7 (CLKO/PCINT7) (io), 10 VCC (power), 11 GND (power), 13 PJ0 (PCINT24/SEG35) (io), 14 PJ1 (PCINT25/SEG34) (io), 19 PB0 (~{SS}/PCINT8) (io), 20 PB1 (SCK/PCINT9) (io), 21 PB2 (MOSI/PCINT10) (io), 22 PB3 (MISO/PCINT11) (io), 23 PB4 (OC0A/PCINT12) (io), 24 PB5 (OC1A/PCINT13) (io), 25 PB6 (OC1B/PCINT14) (io), 26 PB7 (OC2A/PCINT15) (io), 28 PG3 (T1/SEG33) (io), 29 PG4 (T0/SEG32) (io), 30 PG5/~{RESET} (io), 31 VCC (power), 32 GND (power), 33 XTAL2 (TOSC2) (out), 34 XTAL1 (TOSC1) (in), 37 PJ2 (PCINT26/SEG31) (io), 38 PJ3 (PCINT27/SEG30) (io), 39 PJ4 (PCINT28/SEG29) (io), 40 PJ5 (PCINT29/SEG28) (io), 41 PJ6 (PCINT30/SEG27) (io), 43 PD0 (ICP1/SEG26) (io), 44 PD1 (INT0/SEG25) (io), 45 PD2 (SEG24) (io), 46 PD3 (SEG23) (io), 47 PD4 (SEG22) (io), 48 PD5 (SEG21) (io), 49 PD6 (SEG20) (io), 50 PD7 (SEG19) (io), 51 PG0 (SEG18) (io), 52 PG1 (SEG17) (io), 53 PC0 (SEG16) (io), 54 PC1 (SEG15) (io), 55 PC2 (SEG14) (io), 56 PC3 (SEG13) (io), 57 PC4 (SEG12) (io), 58 PC5 (SEG11) (io), 63 PH0 (PCINT16/SEG10) (io), 64 PH1 (PCINT17/SEG9) (io), 65 PH2 (PCINT18/SEG8) (io), 66 PH3 (PCINT19/SEG7) (io), 68 PC6 (SEG6) (io), 69 PC7 (SEG5) (io), 70 PG2 (SEG4) (io), 71 PA7 (SEG3) (io), 72 PA6 (SEG2) (io), 73 PA5 (SEG1) (io), 74 PA4 (SEG0) (io), 75 PA3 (COM3) (io), 76 PA2 (COM2) (io), 77 PA1 (COM1) (io), 78 PA0 (COM0) (io), 80 VCC (power), 81 GND (power), 84 PH4 (PCINT20/SEG39) (io), 85 PH5 (PCINT21/SEG38) (io), 86 PH6 (PCINT22/SEG37) (io), 87 PH7 (PCINT23/SEG36) (io), 90 PF7 (ADC7/TDI) (io), 91 PF6 (ADC6/TDO) (io), 92 PF5 (ADC5/TMS) (io), 93 PF4 (ADC4/TCK) (io), 94 PF3 (ADC3) (io), 95 PF2 (ADC2) (io), 96 PF1 (ADC1) (io), 97 PF0 (ADC0) (io), 98 AREF (power), 99 AGND (power), 100 AVCC (power)
part B pins: 12 DNC, 15 DNC, 16 DNC, 17 DNC, 18 DNC, 27 DNC, 35 DNC, 36 DNC, 42 DNC, 59 DNC, 60 DNC, 61 DNC, 62 DNC, 67 DNC, 79 DNC, 82 DNC, 83 DNC, 88 DNC, 89 DNC

## ATmega3290V-8AI
designator U?
8-bit AVR Microcontroller, 1.8-5.5V, 32KB Flash, 1KB EEPROM, 2KB SRAM, 100-pin TQFP, Industrial Grade (-40°C to 85°C)
footprint 100A_N (Thin QFP, 100-Leads, Body 14x14mm, Pitch 0.5mm, IPC Medium Density)
footprint 100A_L (Thin QFP, 100-Leads, Body 14x14mm, Pitch 0.5mm, IPC High Density)
footprint 100A_M (Thin QFP, 100-Leads, Body 14x14mm, Pitch 0.5mm, IPC Low Density)
part A pins: 1 LCDCAP, 2 PE0 (RXD/PCINT0) (io), 3 PE1 (TXD/PCINT1) (io), 4 PE2 (XCK/AIN0/PCINT2) (io), 5 PE3 (AIN1/PCINT3) (io), 6 PE4 (USCK/SCL/PCINT4) (io), 7 PE5 (DI/SDA/PCINT5) (io), 8 PE6 (DO/PCINT6) (io), 9 PE7 (CLKO/PCINT7) (io), 10 VCC (power), 11 GND (power), 13 PJ0 (PCINT24/SEG35) (io), 14 PJ1 (PCINT25/SEG34) (io), 19 PB0 (~{SS}/PCINT8) (io), 20 PB1 (SCK/PCINT9) (io), 21 PB2 (MOSI/PCINT10) (io), 22 PB3 (MISO/PCINT11) (io), 23 PB4 (OC0A/PCINT12) (io), 24 PB5 (OC1A/PCINT13) (io), 25 PB6 (OC1B/PCINT14) (io), 26 PB7 (OC2A/PCINT15) (io), 28 PG3 (T1/SEG33) (io), 29 PG4 (T0/SEG32) (io), 30 PG5/~{RESET} (io), 31 VCC (power), 32 GND (power), 33 XTAL2 (TOSC2) (out), 34 XTAL1 (TOSC1) (in), 37 PJ2 (PCINT26/SEG31) (io), 38 PJ3 (PCINT27/SEG30) (io), 39 PJ4 (PCINT28/SEG29) (io), 40 PJ5 (PCINT29/SEG28) (io), 41 PJ6 (PCINT30/SEG27) (io), 43 PD0 (ICP1/SEG26) (io), 44 PD1 (INT0/SEG25) (io), 45 PD2 (SEG24) (io), 46 PD3 (SEG23) (io), 47 PD4 (SEG22) (io), 48 PD5 (SEG21) (io), 49 PD6 (SEG20) (io), 50 PD7 (SEG19) (io), 51 PG0 (SEG18) (io), 52 PG1 (SEG17) (io), 53 PC0 (SEG16) (io), 54 PC1 (SEG15) (io), 55 PC2 (SEG14) (io), 56 PC3 (SEG13) (io), 57 PC4 (SEG12) (io), 58 PC5 (SEG11) (io), 63 PH0 (PCINT16/SEG10) (io), 64 PH1 (PCINT17/SEG9) (io), 65 PH2 (PCINT18/SEG8) (io), 66 PH3 (PCINT19/SEG7) (io), 68 PC6 (SEG6) (io), 69 PC7 (SEG5) (io), 70 PG2 (SEG4) (io), 71 PA7 (SEG3) (io), 72 PA6 (SEG2) (io), 73 PA5 (SEG1) (io), 74 PA4 (SEG0) (io), 75 PA3 (COM3) (io), 76 PA2 (COM2) (io), 77 PA1 (COM1) (io), 78 PA0 (COM0) (io), 80 VCC (power), 81 GND (power), 84 PH4 (PCINT20/SEG39) (io), 85 PH5 (PCINT21/SEG38) (io), 86 PH6 (PCINT22/SEG37) (io), 87 PH7 (PCINT23/SEG36) (io), 90 PF7 (ADC7/TDI) (io), 91 PF6 (ADC6/TDO) (io), 92 PF5 (ADC5/TMS) (io), 93 PF4 (ADC4/TCK) (io), 94 PF3 (ADC3) (io), 95 PF2 (ADC2) (io), 96 PF1 (ADC1) (io), 97 PF0 (ADC0) (io), 98 AREF (power), 99 AGND (power), 100 AVCC (power)
part B pins: 12 DNC, 15 DNC, 16 DNC, 17 DNC, 18 DNC, 27 DNC, 35 DNC, 36 DNC, 42 DNC, 59 DNC, 60 DNC, 61 DNC, 62 DNC, 67 DNC, 79 DNC, 82 DNC, 83 DNC, 88 DNC, 89 DNC